# Altium integrated library Altera Cyclone.IntLib: 144 symbols (part 17 of 23)
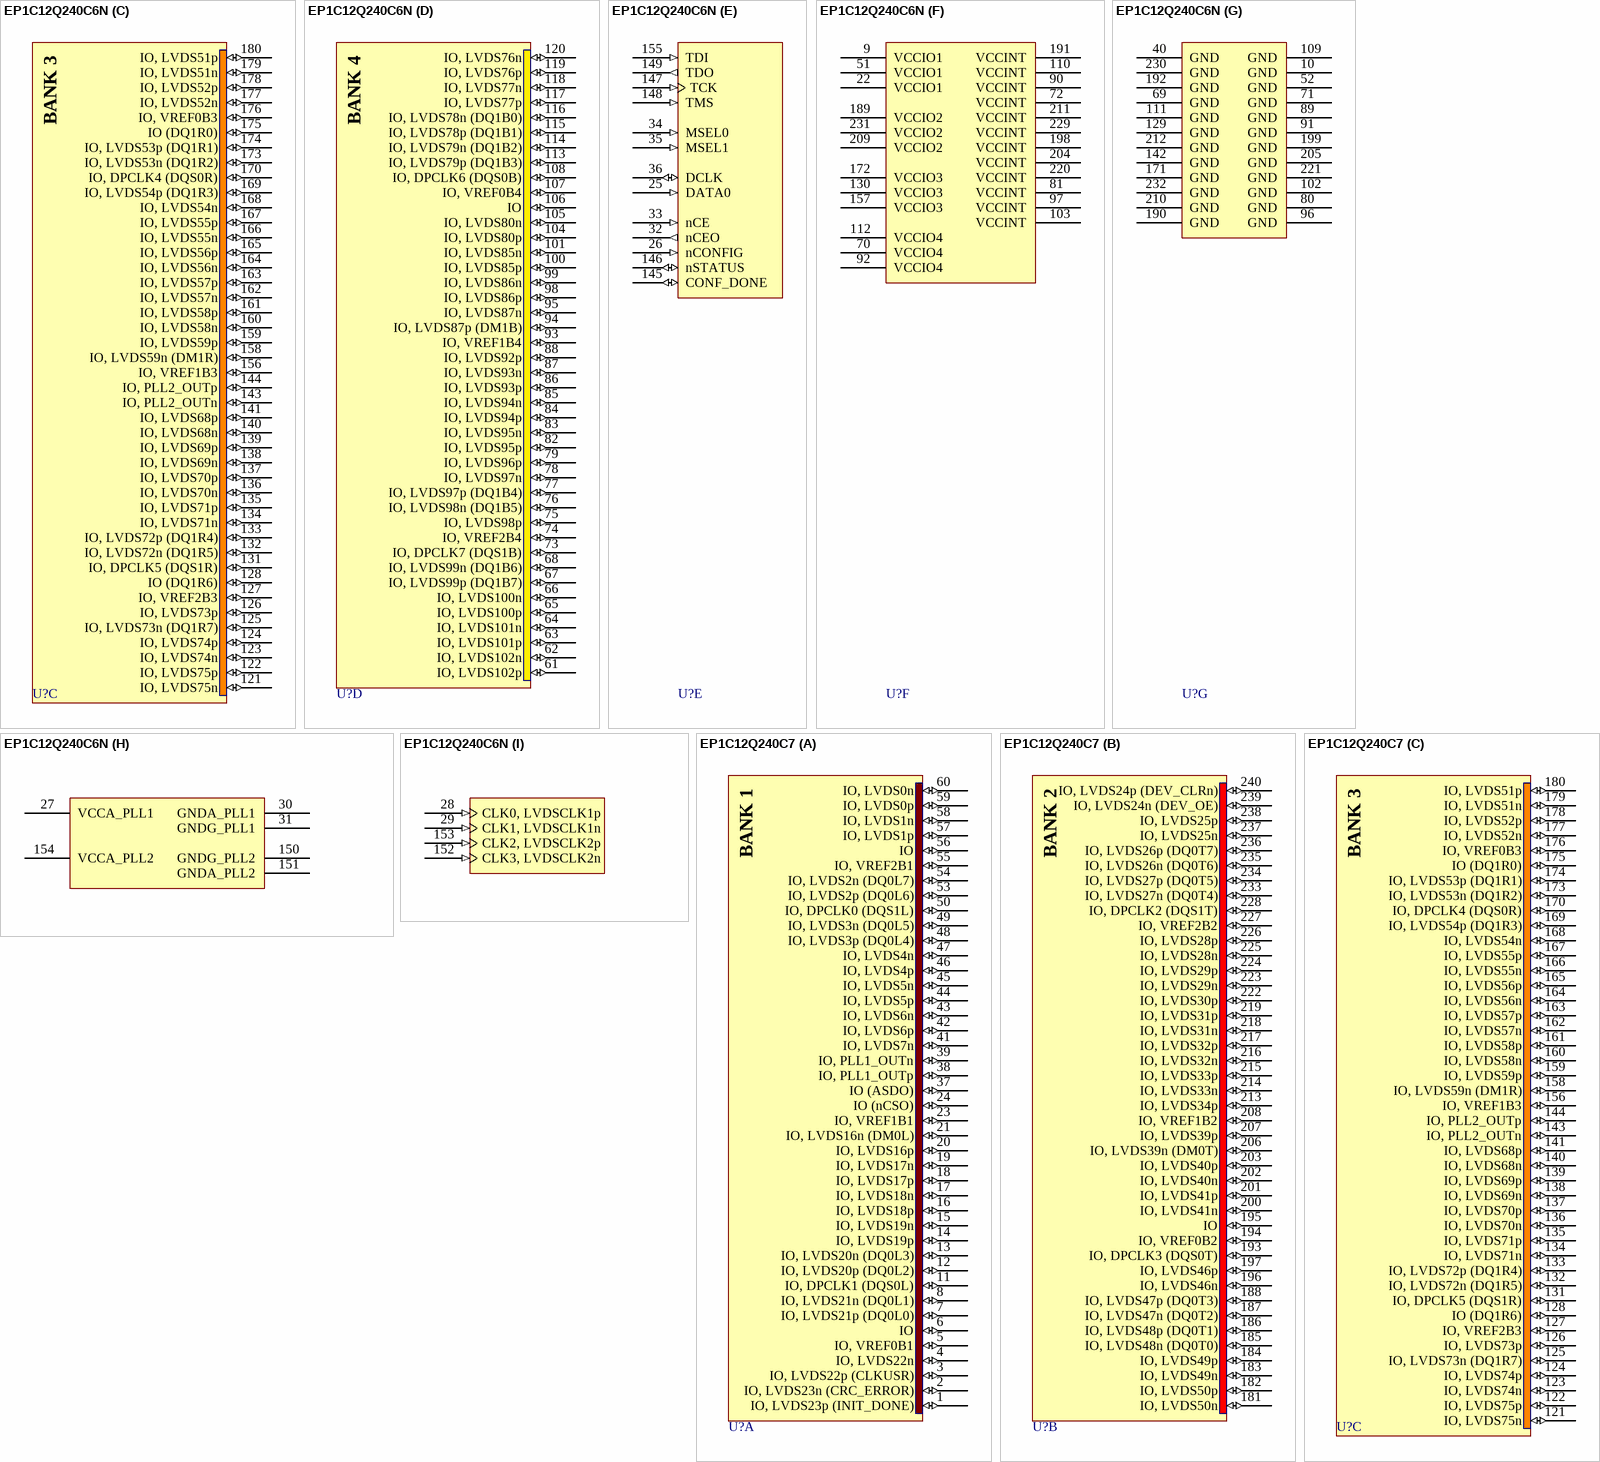
[diagram p169: symbols EP1C12Q240C6N to EP1C12Q240C7]

## EP1C12Q240C6N
designator U?
Cyclone Family, 1.5V FPGA, 173 I/O Pins, 2 x PLLs, Commercial Grade, Speed Grade 6, Pb-Free; Published: 4-Mar-2005; LatestRevisionDate: 13-Apr-2006; LatestRevisionNote: Pin 2 name fix, IPC-7351 Footprint Added.; DatasheetVersion: ver2.4, May-2008; PackageVersion: ver15.4, Dec-2008; PackageReference: PQFP240; Publisher: Altium Limited; PackageDescription: 240-Pin Plastic Quad Flat Pack (PQFP240) - Wire Bond; Supplier 1: Digi-Key; Supplier Part Number 1: 544-1793-ND; Code_JEDEC: MS-029-GA; ComponentLink1Description: Manufacturer Link; ComponentLink1URL: http://www.altera.com/products/devices/cyclone/cyc-index.jsp; ComponentLink2Description: Handbook; ComponentLink2URL: http://www.altera.com/literature/hb/cyc/cyc_c5v1.pdf; ComponentLink3Description: Packaging Specification; ComponentLink3URL: http://www.altera.com/literature/ds/dspkg.pdf
footprint PQFP240_N (Shrink QFP, 240-Leads, Body 32x32mm, Pitch 0.5mm, IPC Medium Density)
footprint PQFP240_L (Shrink QFP, 240-Leads, Body 32x32mm, Pitch 0.5mm, IPC High Density)
footprint PQFP240_M (Shrink QFP, 240-Leads, Body 32x32mm, Pitch 0.5mm, IPC Low Density)
3D model EP1C12-PQFP240 (240-Pin Plastic Quad Flat Pack (PQFP240) - Wire Bond)
signal-integrity model 1c (Cyclone)
part A pins: 1 IO, LVDS23p (INIT_DONE) (io), 2 IO, LVDS23n (CRC_ERROR) (io), 3 IO, LVDS22p (CLKUSR) (io), 4 IO, LVDS22n (io), 5 IO, VREF0B1 (io), 6 IO (io), 7 IO, LVDS21p (DQ0L0) (io), 8 IO, LVDS21n (DQ0L1) (io), 11 IO, DPCLK1 (DQS0L) (io), 12 IO, LVDS20p (DQ0L2) (io), 13 IO, LVDS20n (DQ0L3) (io), 14 IO, LVDS19p (io), 15 IO, LVDS19n (io), 16 IO, LVDS18p (io), 17 IO, LVDS18n (io), 18 IO, LVDS17p (io), 19 IO, LVDS17n (io), 20 IO, LVDS16p (io), 21 IO, LVDS16n (DM0L) (io), 23 IO, VREF1B1 (io), 24 IO (nCSO) (io), 37 IO (ASDO) (io), 38 IO, PLL1_OUTp (io), 39 IO, PLL1_OUTn (io), 41 IO, LVDS7n (io), 42 IO, LVDS6p (io), 43 IO, LVDS6n (io), 44 IO, LVDS5p (io), 45 IO, LVDS5n (io), 46 IO, LVDS4p (io), 47 IO, LVDS4n (io), 48 IO, LVDS3p (DQ0L4) (io), 49 IO, LVDS3n (DQ0L5) (io), 50 IO, DPCLK0 (DQS1L) (io), 53 IO, LVDS2p (DQ0L6) (io), 54 IO, LVDS2n (DQ0L7) (io), 55 IO, VREF2B1 (io), 56 IO (io), 57 IO, LVDS1p (io), 58 IO, LVDS1n (io), 59 IO, LVDS0p (io), 60 IO, LVDS0n (io)
part B pins: 181 IO, LVDS50n (io), 182 IO, LVDS50p (io), 183 IO, LVDS49n (io), 184 IO, LVDS49p (io), 185 IO, LVDS48n (DQ0T0) (io), 186 IO, LVDS48p (DQ0T1) (io), 187 IO, LVDS47n (DQ0T2) (io), 188 IO, LVDS47p (DQ0T3) (io), 193 IO, DPCLK3 (DQS0T) (io), 194 IO, VREF0B2 (io), 195 IO (io), 196 IO, LVDS46n (io), 197 IO, LVDS46p (io), 200 IO, LVDS41n (io), 201 IO, LVDS41p (io), 202 IO, LVDS40n (io), 203 IO, LVDS40p (io), 206 IO, LVDS39n (DM0T) (io), 207 IO, LVDS39p (io), 208 IO, VREF1B2 (io), 213 IO, LVDS34p (io), 214 IO, LVDS33n (io), 215 IO, LVDS33p (io), 216 IO, LVDS32n (io), 217 IO, LVDS32p (io), 218 IO, LVDS31n (io), 219 IO, LVDS31p (io), 222 IO, LVDS30p (io), 223 IO, LVDS29n (io), 224 IO, LVDS29p (io), 225 IO, LVDS28n (io), 226 IO, LVDS28p (io), 227 IO, VREF2B2 (io), 228 IO, DPCLK2 (DQS1T) (io), 233 IO, LVDS27n (DQ0T4) (io), 234 IO, LVDS27p (DQ0T5) (io), 235 IO, LVDS26n (DQ0T6) (io), 236 IO, LVDS26p (DQ0T7) (io), 237 IO, LVDS25n (io), 238 IO, LVDS25p (io), 239 IO, LVDS24n (DEV_OE) (io), 240 IO, LVDS24p (DEV_CLRn) (io)
part C pins: 121 IO, LVDS75n (io), 122 IO, LVDS75p (io), 123 IO, LVDS74n (io), 124 IO, LVDS74p (io), 125 IO, LVDS73n (DQ1R7) (io), 126 IO, LVDS73p (io), 127 IO, VREF2B3 (io), 128 IO (DQ1R6) (io), 131 IO, DPCLK5 (DQS1R) (io), 132 IO, LVDS72n (DQ1R5) (io), 133 IO, LVDS72p (DQ1R4) (io), 134 IO, LVDS71n (io), 135 IO, LVDS71p (io), 136 IO, LVDS70n (io), 137 IO, LVDS70p (io), 138 IO, LVDS69n (io), 139 IO, LVDS69p (io), 140 IO, LVDS68n (io), 141 IO, LVDS68p (io), 143 IO, PLL2_OUTn (io), 144 IO, PLL2_OUTp (io), 156 IO, VREF1B3 (io), 158 IO, LVDS59n (DM1R) (io), 159 IO, LVDS59p (io), 160 IO, LVDS58n (io), 161 IO, LVDS58p (io), 162 IO, LVDS57n (io), 163 IO, LVDS57p (io), 164 IO, LVDS56n (io), 165 IO, LVDS56p (io), 166 IO, LVDS55n (io), 167 IO, LVDS55p (io), 168 IO, LVDS54n (io), 169 IO, LVDS54p (DQ1R3) (io), 170 IO, DPCLK4 (DQS0R) (io), 173 IO, LVDS53n (DQ1R2) (io), 174 IO, LVDS53p (DQ1R1) (io), 175 IO (DQ1R0) (io), 176 IO, VREF0B3 (io), 177 IO, LVDS52n (io), 178 IO, LVDS52p (io), 179 IO, LVDS51n (io), 180 IO, LVDS51p (io)
part D pins: 61 IO, LVDS102p (io), 62 IO, LVDS102n (io), 63 IO, LVDS101p (io), 64 IO, LVDS101n (io), 65 IO, LVDS100p (io), 66 IO, LVDS100n (io), 67 IO, LVDS99p (DQ1B7) (io), 68 IO, LVDS99n (DQ1B6) (io), 73 IO, DPCLK7 (DQS1B) (io), 74 IO, VREF2B4 (io), 75 IO, LVDS98p (io), 76 IO, LVDS98n (DQ1B5) (io), 77 IO, LVDS97p (DQ1B4) (io), 78 IO, LVDS97n (io), 79 IO, LVDS96p (io), 82 IO, LVDS95p (io), 83 IO, LVDS95n (io), 84 IO, LVDS94p (io), 85 IO, LVDS94n (io), 86 IO, LVDS93p (io), 87 IO, LVDS93n (io), 88 IO, LVDS92p (io), 93 IO, VREF1B4 (io), 94 IO, LVDS87p (DM1B) (io), 95 IO, LVDS87n (io), 98 IO, LVDS86p (io), 99 IO, LVDS86n (io), 100 IO, LVDS85p (io), 101 IO, LVDS85n (io), 104 IO, LVDS80p (io), 105 IO, LVDS80n (io), 106 IO (io), 107 IO, VREF0B4 (io), 108 IO, DPCLK6 (DQS0B) (io), 113 IO, LVDS79p (DQ1B3) (io), 114 IO, LVDS79n (DQ1B2) (io), 115 IO, LVDS78p (DQ1B1) (io), 116 IO, LVDS78n (DQ1B0) (io), 117 IO, LVDS77p (io), 118 IO, LVDS77n (io), 119 IO, LVDS76p (io), 120 IO, LVDS76n (io)
part E pins: 25 DATA0 (in), 26 nCONFIG (in), 32 nCEO (out), 33 nCE (in), 34 MSEL0 (in), 35 MSEL1 (in), 36 DCLK (io), 145 CONF_DONE (io), 146 nSTATUS (io), 147 TCK (in), 148 TMS (in), 149 TDO (out), 155 TDI (in)
part F pins: 9 VCCIO1 (power), 22 VCCIO1 (power), 51 VCCIO1 (power), 70 VCCIO4 (power), 72 VCCINT (power), 81 VCCINT (power), 90 VCCINT (power), 92 VCCIO4 (power), 97 VCCINT (power), 103 VCCINT (power), 110 VCCINT (power), 112 VCCIO4 (power), 130 VCCIO3 (power), 157 VCCIO3 (power), 172 VCCIO3 (power), 189 VCCIO2 (power), 191 VCCINT (power), 198 VCCINT (power), 204 VCCINT (power), 209 VCCIO2 (power), 211 VCCINT (power), 220 VCCINT (power), 229 VCCINT (power), 231 VCCIO2 (power)
part G pins: 10 GND (power), 40 GND (power), 52 GND (power), 69 GND (power), 71 GND (power), 80 GND (power), 89 GND (power), 91 GND (power), 96 GND (power), 102 GND (power), 109 GND (power), 111 GND (power), 129 GND (power), 142 GND (power), 171 GND (power), 190 GND (power), 192 GND (power), 199 GND (power), 205 GND (power), 210 GND (power), 212 GND (power), 221 GND (power), 230 GND (power), 232 GND (power)
part H pins: 27 VCCA_PLL1 (power), 30 GNDA_PLL1 (power), 31 GNDG_PLL1 (power), 150 GNDG_PLL2 (power), 151 GNDA_PLL2 (power), 154 VCCA_PLL2 (power)
part I pins: 28 CLK0, LVDSCLK1p (in), 29 CLK1, LVDSCLK1n (in), 152 CLK3, LVDSCLK2n (in), 153 CLK2, LVDSCLK2p (in)
part A text: BANK 1
part B text: BANK 2
part C text: BANK 3
part D text: BANK 4

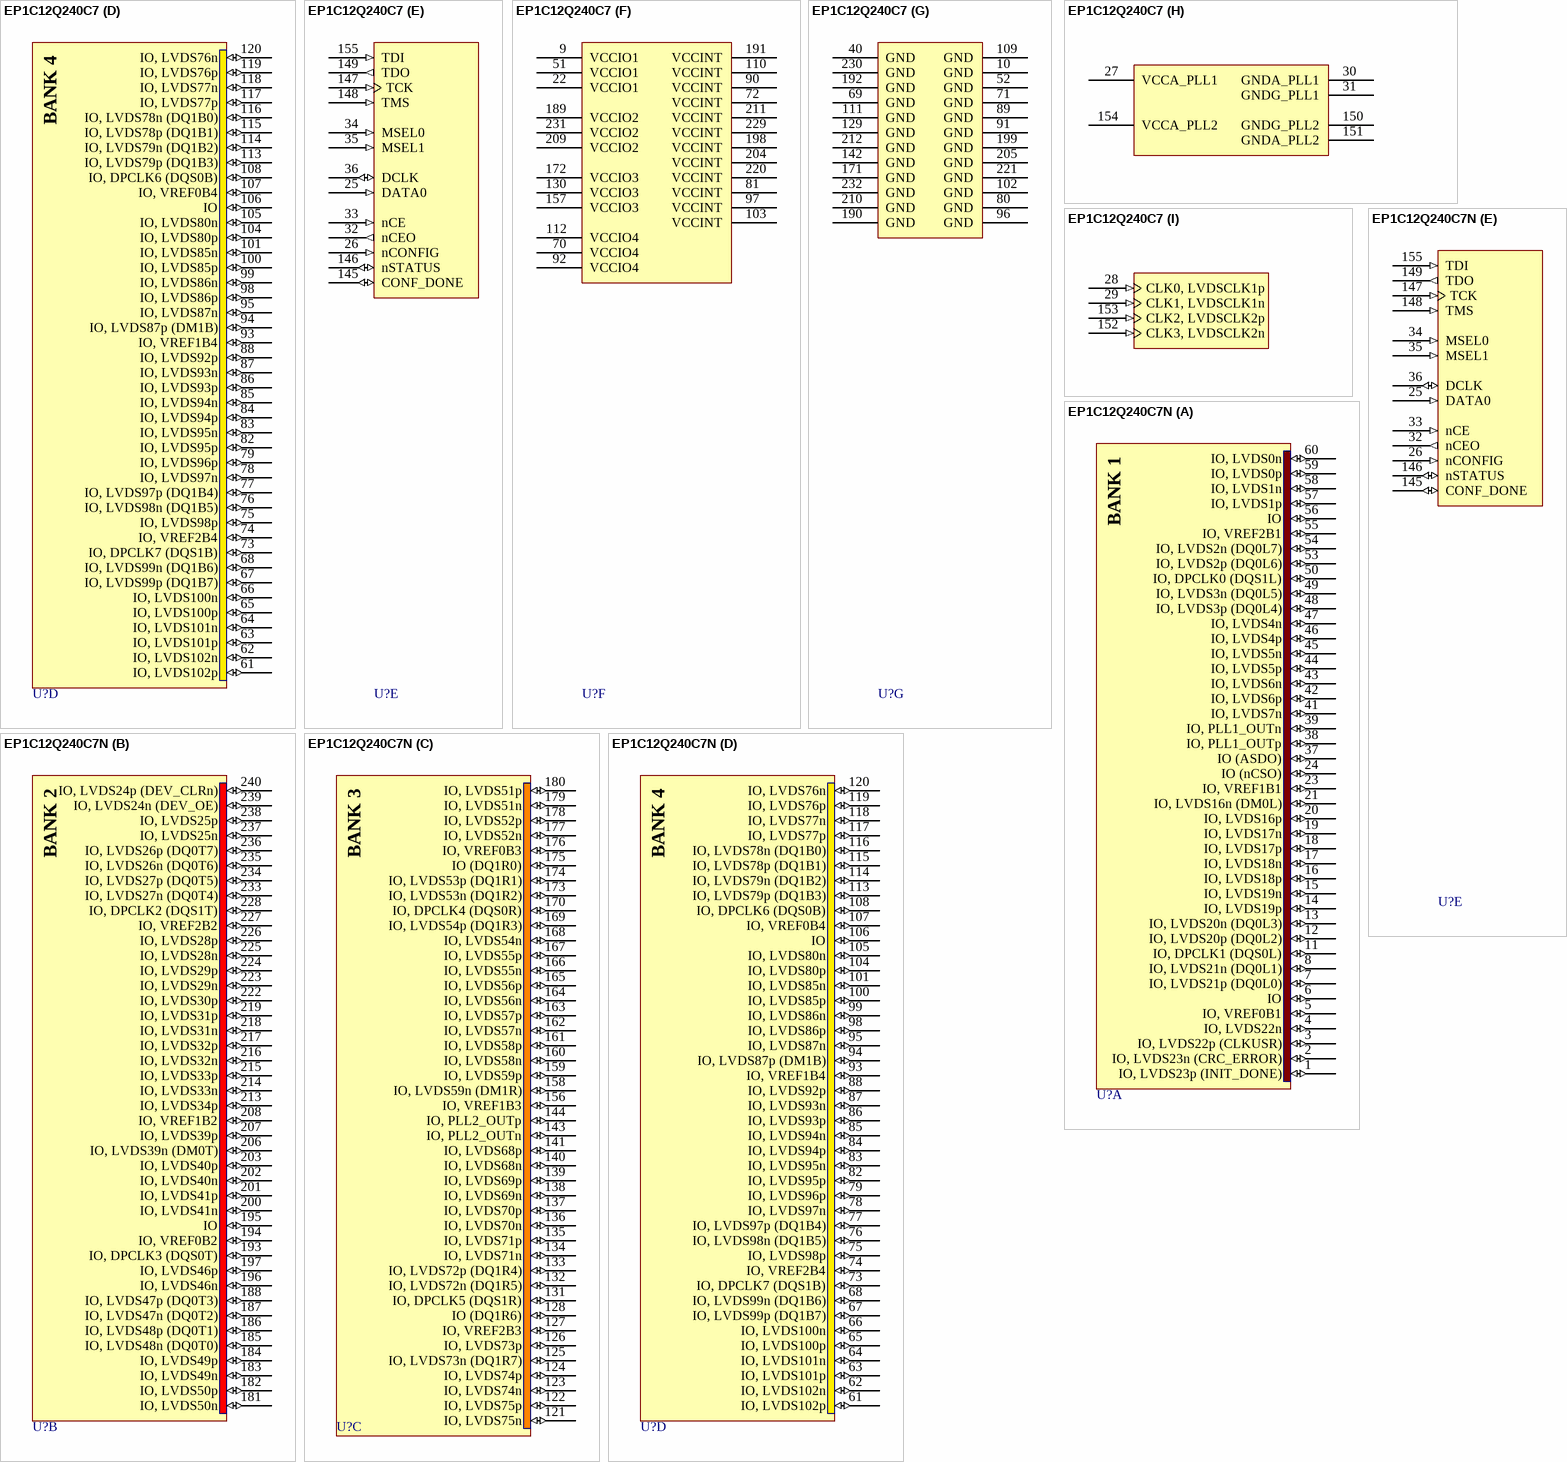
[diagram p111: symbols EP1C12Q240C7 to EP1C12Q240C7N]

## EP1C12Q240C7
designator U?
Cyclone Family, 1.5V FPGA, 173 I/O Pins, 2 x PLLs, Commercial Grade, Speed Grade 7; Published: 17-Sep-2003; LatestRevisionDate: 13-Apr-2006; LatestRevisionNote: Pin 2 name fix, IPC-7351 Footprint Added.; DatasheetVersion: ver2.4, May-2008; PackageVersion: ver15.4, Dec-2008; PackageReference: PQFP240; Publisher: Altium Limited; PackageDescription: 240-Pin Plastic Quad Flat Pack (PQFP240) - Wire Bond; Supplier 1: Digi-Key; Supplier Part Number 1: 544-1080-ND; Code_JEDEC: MS-029-GA; ComponentLink1Description: Manufacturer Link; ComponentLink1URL: http://www.altera.com/products/devices/cyclone/cyc-index.jsp; ComponentLink2Description: Handbook; ComponentLink2URL: http://www.altera.com/literature/hb/cyc/cyc_c5v1.pdf; ComponentLink3Description: Packaging Specification; ComponentLink3URL: http://www.altera.com/literature/ds/dspkg.pdf
footprint PQFP240_N (Shrink QFP, 240-Leads, Body 32x32mm, Pitch 0.5mm, IPC Medium Density)
footprint PQFP240_L (Shrink QFP, 240-Leads, Body 32x32mm, Pitch 0.5mm, IPC High Density)
footprint PQFP240_M (Shrink QFP, 240-Leads, Body 32x32mm, Pitch 0.5mm, IPC Low Density)
3D model EP1C12-PQFP240 (240-Pin Plastic Quad Flat Pack (PQFP240) - Wire Bond)
signal-integrity model 1c (Cyclone)
part A pins: 1 IO, LVDS23p (INIT_DONE) (io), 2 IO, LVDS23n (CRC_ERROR) (io), 3 IO, LVDS22p (CLKUSR) (io), 4 IO, LVDS22n (io), 5 IO, VREF0B1 (io), 6 IO (io), 7 IO, LVDS21p (DQ0L0) (io), 8 IO, LVDS21n (DQ0L1) (io), 11 IO, DPCLK1 (DQS0L) (io), 12 IO, LVDS20p (DQ0L2) (io), 13 IO, LVDS20n (DQ0L3) (io), 14 IO, LVDS19p (io), 15 IO, LVDS19n (io), 16 IO, LVDS18p (io), 17 IO, LVDS18n (io), 18 IO, LVDS17p (io), 19 IO, LVDS17n (io), 20 IO, LVDS16p (io), 21 IO, LVDS16n (DM0L) (io), 23 IO, VREF1B1 (io), 24 IO (nCSO) (io), 37 IO (ASDO) (io), 38 IO, PLL1_OUTp (io), 39 IO, PLL1_OUTn (io), 41 IO, LVDS7n (io), 42 IO, LVDS6p (io), 43 IO, LVDS6n (io), 44 IO, LVDS5p (io), 45 IO, LVDS5n (io), 46 IO, LVDS4p (io), 47 IO, LVDS4n (io), 48 IO, LVDS3p (DQ0L4) (io), 49 IO, LVDS3n (DQ0L5) (io), 50 IO, DPCLK0 (DQS1L) (io), 53 IO, LVDS2p (DQ0L6) (io), 54 IO, LVDS2n (DQ0L7) (io), 55 IO, VREF2B1 (io), 56 IO (io), 57 IO, LVDS1p (io), 58 IO, LVDS1n (io), 59 IO, LVDS0p (io), 60 IO, LVDS0n (io)
part B pins: 181 IO, LVDS50n (io), 182 IO, LVDS50p (io), 183 IO, LVDS49n (io), 184 IO, LVDS49p (io), 185 IO, LVDS48n (DQ0T0) (io), 186 IO, LVDS48p (DQ0T1) (io), 187 IO, LVDS47n (DQ0T2) (io), 188 IO, LVDS47p (DQ0T3) (io), 193 IO, DPCLK3 (DQS0T) (io), 194 IO, VREF0B2 (io), 195 IO (io), 196 IO, LVDS46n (io), 197 IO, LVDS46p (io), 200 IO, LVDS41n (io), 201 IO, LVDS41p (io), 202 IO, LVDS40n (io), 203 IO, LVDS40p (io), 206 IO, LVDS39n (DM0T) (io), 207 IO, LVDS39p (io), 208 IO, VREF1B2 (io), 213 IO, LVDS34p (io), 214 IO, LVDS33n (io), 215 IO, LVDS33p (io), 216 IO, LVDS32n (io), 217 IO, LVDS32p (io), 218 IO, LVDS31n (io), 219 IO, LVDS31p (io), 222 IO, LVDS30p (io), 223 IO, LVDS29n (io), 224 IO, LVDS29p (io), 225 IO, LVDS28n (io), 226 IO, LVDS28p (io), 227 IO, VREF2B2 (io), 228 IO, DPCLK2 (DQS1T) (io), 233 IO, LVDS27n (DQ0T4) (io), 234 IO, LVDS27p (DQ0T5) (io), 235 IO, LVDS26n (DQ0T6) (io), 236 IO, LVDS26p (DQ0T7) (io), 237 IO, LVDS25n (io), 238 IO, LVDS25p (io), 239 IO, LVDS24n (DEV_OE) (io), 240 IO, LVDS24p (DEV_CLRn) (io)
part C pins: 121 IO, LVDS75n (io), 122 IO, LVDS75p (io), 123 IO, LVDS74n (io), 124 IO, LVDS74p (io), 125 IO, LVDS73n (DQ1R7) (io), 126 IO, LVDS73p (io), 127 IO, VREF2B3 (io), 128 IO (DQ1R6) (io), 131 IO, DPCLK5 (DQS1R) (io), 132 IO, LVDS72n (DQ1R5) (io), 133 IO, LVDS72p (DQ1R4) (io), 134 IO, LVDS71n (io), 135 IO, LVDS71p (io), 136 IO, LVDS70n (io), 137 IO, LVDS70p (io), 138 IO, LVDS69n (io), 139 IO, LVDS69p (io), 140 IO, LVDS68n (io), 141 IO, LVDS68p (io), 143 IO, PLL2_OUTn (io), 144 IO, PLL2_OUTp (io), 156 IO, VREF1B3 (io), 158 IO, LVDS59n (DM1R) (io), 159 IO, LVDS59p (io), 160 IO, LVDS58n (io), 161 IO, LVDS58p (io), 162 IO, LVDS57n (io), 163 IO, LVDS57p (io), 164 IO, LVDS56n (io), 165 IO, LVDS56p (io), 166 IO, LVDS55n (io), 167 IO, LVDS55p (io), 168 IO, LVDS54n (io), 169 IO, LVDS54p (DQ1R3) (io), 170 IO, DPCLK4 (DQS0R) (io), 173 IO, LVDS53n (DQ1R2) (io), 174 IO, LVDS53p (DQ1R1) (io), 175 IO (DQ1R0) (io), 176 IO, VREF0B3 (io), 177 IO, LVDS52n (io), 178 IO, LVDS52p (io), 179 IO, LVDS51n (io), 180 IO, LVDS51p (io)
part D pins: 61 IO, LVDS102p (io), 62 IO, LVDS102n (io), 63 IO, LVDS101p (io), 64 IO, LVDS101n (io), 65 IO, LVDS100p (io), 66 IO, LVDS100n (io), 67 IO, LVDS99p (DQ1B7) (io), 68 IO, LVDS99n (DQ1B6) (io), 73 IO, DPCLK7 (DQS1B) (io), 74 IO, VREF2B4 (io), 75 IO, LVDS98p (io), 76 IO, LVDS98n (DQ1B5) (io), 77 IO, LVDS97p (DQ1B4) (io), 78 IO, LVDS97n (io), 79 IO, LVDS96p (io), 82 IO, LVDS95p (io), 83 IO, LVDS95n (io), 84 IO, LVDS94p (io), 85 IO, LVDS94n (io), 86 IO, LVDS93p (io), 87 IO, LVDS93n (io), 88 IO, LVDS92p (io), 93 IO, VREF1B4 (io), 94 IO, LVDS87p (DM1B) (io), 95 IO, LVDS87n (io), 98 IO, LVDS86p (io), 99 IO, LVDS86n (io), 100 IO, LVDS85p (io), 101 IO, LVDS85n (io), 104 IO, LVDS80p (io), 105 IO, LVDS80n (io), 106 IO (io), 107 IO, VREF0B4 (io), 108 IO, DPCLK6 (DQS0B) (io), 113 IO, LVDS79p (DQ1B3) (io), 114 IO, LVDS79n (DQ1B2) (io), 115 IO, LVDS78p (DQ1B1) (io), 116 IO, LVDS78n (DQ1B0) (io), 117 IO, LVDS77p (io), 118 IO, LVDS77n (io), 119 IO, LVDS76p (io), 120 IO, LVDS76n (io)
part E pins: 25 DATA0 (in), 26 nCONFIG (in), 32 nCEO (out), 33 nCE (in), 34 MSEL0 (in), 35 MSEL1 (in), 36 DCLK (io), 145 CONF_DONE (io), 146 nSTATUS (io), 147 TCK (in), 148 TMS (in), 149 TDO (out), 155 TDI (in)
part F pins: 9 VCCIO1 (power), 22 VCCIO1 (power), 51 VCCIO1 (power), 70 VCCIO4 (power), 72 VCCINT (power), 81 VCCINT (power), 90 VCCINT (power), 92 VCCIO4 (power), 97 VCCINT (power), 103 VCCINT (power), 110 VCCINT (power), 112 VCCIO4 (power), 130 VCCIO3 (power), 157 VCCIO3 (power), 172 VCCIO3 (power), 189 VCCIO2 (power), 191 VCCINT (power), 198 VCCINT (power), 204 VCCINT (power), 209 VCCIO2 (power), 211 VCCINT (power), 220 VCCINT (power), 229 VCCINT (power), 231 VCCIO2 (power)
part G pins: 10 GND (power), 40 GND (power), 52 GND (power), 69 GND (power), 71 GND (power), 80 GND (power), 89 GND (power), 91 GND (power), 96 GND (power), 102 GND (power), 109 GND (power), 111 GND (power), 129 GND (power), 142 GND (power), 171 GND (power), 190 GND (power), 192 GND (power), 199 GND (power), 205 GND (power), 210 GND (power), 212 GND (power), 221 GND (power), 230 GND (power), 232 GND (power)
part H pins: 27 VCCA_PLL1 (power), 30 GNDA_PLL1 (power), 31 GNDG_PLL1 (power), 150 GNDG_PLL2 (power), 151 GNDA_PLL2 (power), 154 VCCA_PLL2 (power)
part I pins: 28 CLK0, LVDSCLK1p (in), 29 CLK1, LVDSCLK1n (in), 152 CLK3, LVDSCLK2n (in), 153 CLK2, LVDSCLK2p (in)
part A text: BANK 1
part B text: BANK 2
part C text: BANK 3
part D text: BANK 4

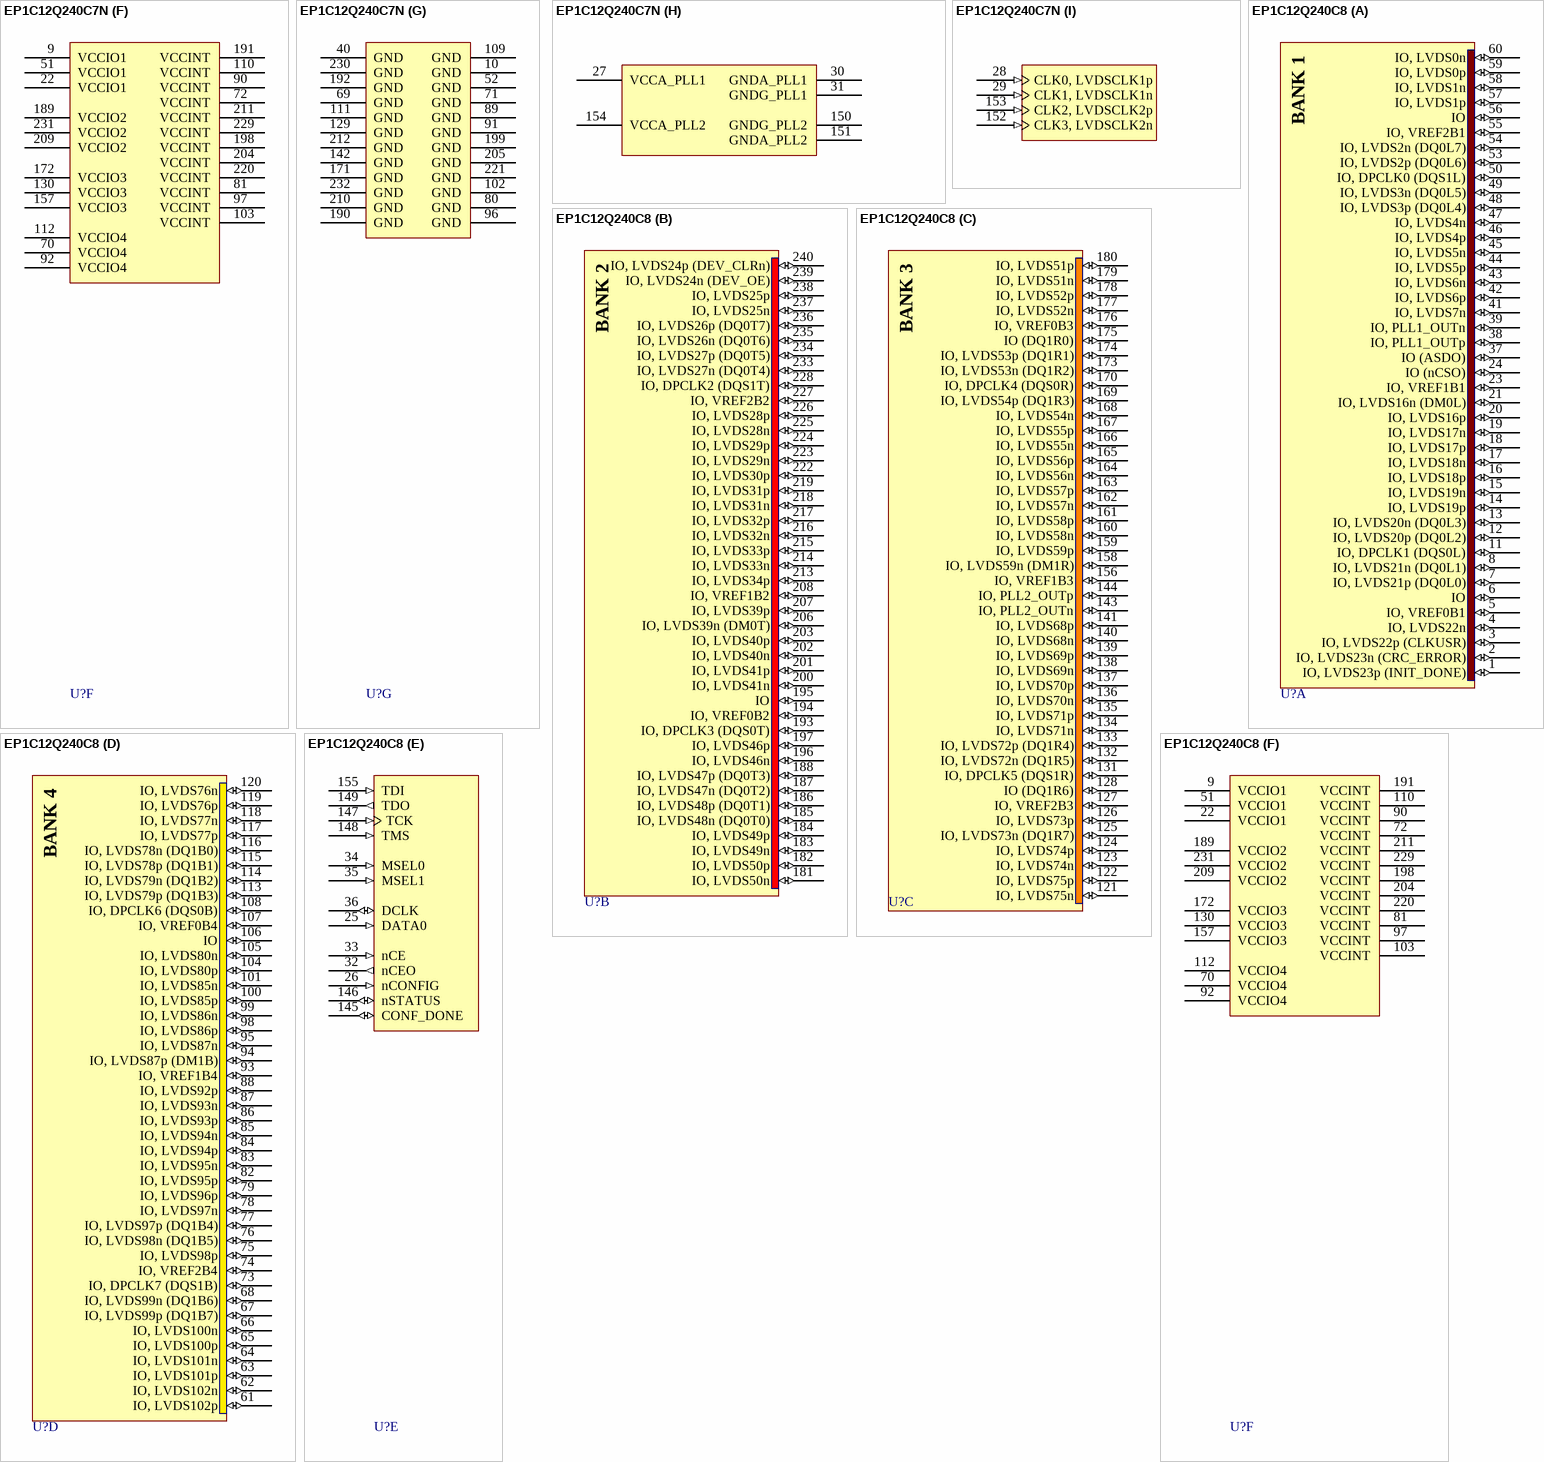
[diagram p112: symbols EP1C12Q240C7N to EP1C12Q240C8]

## EP1C12Q240C7N
designator U?
Cyclone Family, 1.5V FPGA, 173 I/O Pins, 2 x PLLs, Commercial Grade, Speed Grade 7, Pb-Free; Published: 4-Mar-2005; LatestRevisionDate: 13-Apr-2006; LatestRevisionNote: Pin 2 name fix, IPC-7351 Footprint Added.; DatasheetVersion: ver2.4, May-2008; PackageVersion: ver15.4, Dec-2008; PackageReference: PQFP240; Publisher: Altium Limited; PackageDescription: 240-Pin Plastic Quad Flat Pack (PQFP240) - Wire Bond; Supplier 1: Digi-Key; Supplier Part Number 1: 544-1794-ND; Code_JEDEC: MS-029-GA; ComponentLink1Description: Manufacturer Link; ComponentLink1URL: http://www.altera.com/products/devices/cyclone/cyc-index.jsp; ComponentLink2Description: Handbook; ComponentLink2URL: http://www.altera.com/literature/hb/cyc/cyc_c5v1.pdf; ComponentLink3Description: Packaging Specification; ComponentLink3URL: http://www.altera.com/literature/ds/dspkg.pdf
footprint PQFP240_N (Shrink QFP, 240-Leads, Body 32x32mm, Pitch 0.5mm, IPC Medium Density)
footprint PQFP240_L (Shrink QFP, 240-Leads, Body 32x32mm, Pitch 0.5mm, IPC High Density)
footprint PQFP240_M (Shrink QFP, 240-Leads, Body 32x32mm, Pitch 0.5mm, IPC Low Density)
3D model EP1C12-PQFP240 (240-Pin Plastic Quad Flat Pack (PQFP240) - Wire Bond)
signal-integrity model 1c (Cyclone)
part A pins: 1 IO, LVDS23p (INIT_DONE) (io), 2 IO, LVDS23n (CRC_ERROR) (io), 3 IO, LVDS22p (CLKUSR) (io), 4 IO, LVDS22n (io), 5 IO, VREF0B1 (io), 6 IO (io), 7 IO, LVDS21p (DQ0L0) (io), 8 IO, LVDS21n (DQ0L1) (io), 11 IO, DPCLK1 (DQS0L) (io), 12 IO, LVDS20p (DQ0L2) (io), 13 IO, LVDS20n (DQ0L3) (io), 14 IO, LVDS19p (io), 15 IO, LVDS19n (io), 16 IO, LVDS18p (io), 17 IO, LVDS18n (io), 18 IO, LVDS17p (io), 19 IO, LVDS17n (io), 20 IO, LVDS16p (io), 21 IO, LVDS16n (DM0L) (io), 23 IO, VREF1B1 (io), 24 IO (nCSO) (io), 37 IO (ASDO) (io), 38 IO, PLL1_OUTp (io), 39 IO, PLL1_OUTn (io), 41 IO, LVDS7n (io), 42 IO, LVDS6p (io), 43 IO, LVDS6n (io), 44 IO, LVDS5p (io), 45 IO, LVDS5n (io), 46 IO, LVDS4p (io), 47 IO, LVDS4n (io), 48 IO, LVDS3p (DQ0L4) (io), 49 IO, LVDS3n (DQ0L5) (io), 50 IO, DPCLK0 (DQS1L) (io), 53 IO, LVDS2p (DQ0L6) (io), 54 IO, LVDS2n (DQ0L7) (io), 55 IO, VREF2B1 (io), 56 IO (io), 57 IO, LVDS1p (io), 58 IO, LVDS1n (io), 59 IO, LVDS0p (io), 60 IO, LVDS0n (io)
part B pins: 181 IO, LVDS50n (io), 182 IO, LVDS50p (io), 183 IO, LVDS49n (io), 184 IO, LVDS49p (io), 185 IO, LVDS48n (DQ0T0) (io), 186 IO, LVDS48p (DQ0T1) (io), 187 IO, LVDS47n (DQ0T2) (io), 188 IO, LVDS47p (DQ0T3) (io), 193 IO, DPCLK3 (DQS0T) (io), 194 IO, VREF0B2 (io), 195 IO (io), 196 IO, LVDS46n (io), 197 IO, LVDS46p (io), 200 IO, LVDS41n (io), 201 IO, LVDS41p (io), 202 IO, LVDS40n (io), 203 IO, LVDS40p (io), 206 IO, LVDS39n (DM0T) (io), 207 IO, LVDS39p (io), 208 IO, VREF1B2 (io), 213 IO, LVDS34p (io), 214 IO, LVDS33n (io), 215 IO, LVDS33p (io), 216 IO, LVDS32n (io), 217 IO, LVDS32p (io), 218 IO, LVDS31n (io), 219 IO, LVDS31p (io), 222 IO, LVDS30p (io), 223 IO, LVDS29n (io), 224 IO, LVDS29p (io), 225 IO, LVDS28n (io), 226 IO, LVDS28p (io), 227 IO, VREF2B2 (io), 228 IO, DPCLK2 (DQS1T) (io), 233 IO, LVDS27n (DQ0T4) (io), 234 IO, LVDS27p (DQ0T5) (io), 235 IO, LVDS26n (DQ0T6) (io), 236 IO, LVDS26p (DQ0T7) (io), 237 IO, LVDS25n (io), 238 IO, LVDS25p (io), 239 IO, LVDS24n (DEV_OE) (io), 240 IO, LVDS24p (DEV_CLRn) (io)
part C pins: 121 IO, LVDS75n (io), 122 IO, LVDS75p (io), 123 IO, LVDS74n (io), 124 IO, LVDS74p (io), 125 IO, LVDS73n (DQ1R7) (io), 126 IO, LVDS73p (io), 127 IO, VREF2B3 (io), 128 IO (DQ1R6) (io), 131 IO, DPCLK5 (DQS1R) (io), 132 IO, LVDS72n (DQ1R5) (io), 133 IO, LVDS72p (DQ1R4) (io), 134 IO, LVDS71n (io), 135 IO, LVDS71p (io), 136 IO, LVDS70n (io), 137 IO, LVDS70p (io), 138 IO, LVDS69n (io), 139 IO, LVDS69p (io), 140 IO, LVDS68n (io), 141 IO, LVDS68p (io), 143 IO, PLL2_OUTn (io), 144 IO, PLL2_OUTp (io), 156 IO, VREF1B3 (io), 158 IO, LVDS59n (DM1R) (io), 159 IO, LVDS59p (io), 160 IO, LVDS58n (io), 161 IO, LVDS58p (io), 162 IO, LVDS57n (io), 163 IO, LVDS57p (io), 164 IO, LVDS56n (io), 165 IO, LVDS56p (io), 166 IO, LVDS55n (io), 167 IO, LVDS55p (io), 168 IO, LVDS54n (io), 169 IO, LVDS54p (DQ1R3) (io), 170 IO, DPCLK4 (DQS0R) (io), 173 IO, LVDS53n (DQ1R2) (io), 174 IO, LVDS53p (DQ1R1) (io), 175 IO (DQ1R0) (io), 176 IO, VREF0B3 (io), 177 IO, LVDS52n (io), 178 IO, LVDS52p (io), 179 IO, LVDS51n (io), 180 IO, LVDS51p (io)
part D pins: 61 IO, LVDS102p (io), 62 IO, LVDS102n (io), 63 IO, LVDS101p (io), 64 IO, LVDS101n (io), 65 IO, LVDS100p (io), 66 IO, LVDS100n (io), 67 IO, LVDS99p (DQ1B7) (io), 68 IO, LVDS99n (DQ1B6) (io), 73 IO, DPCLK7 (DQS1B) (io), 74 IO, VREF2B4 (io), 75 IO, LVDS98p (io), 76 IO, LVDS98n (DQ1B5) (io), 77 IO, LVDS97p (DQ1B4) (io), 78 IO, LVDS97n (io), 79 IO, LVDS96p (io), 82 IO, LVDS95p (io), 83 IO, LVDS95n (io), 84 IO, LVDS94p (io), 85 IO, LVDS94n (io), 86 IO, LVDS93p (io), 87 IO, LVDS93n (io), 88 IO, LVDS92p (io), 93 IO, VREF1B4 (io), 94 IO, LVDS87p (DM1B) (io), 95 IO, LVDS87n (io), 98 IO, LVDS86p (io), 99 IO, LVDS86n (io), 100 IO, LVDS85p (io), 101 IO, LVDS85n (io), 104 IO, LVDS80p (io), 105 IO, LVDS80n (io), 106 IO (io), 107 IO, VREF0B4 (io), 108 IO, DPCLK6 (DQS0B) (io), 113 IO, LVDS79p (DQ1B3) (io), 114 IO, LVDS79n (DQ1B2) (io), 115 IO, LVDS78p (DQ1B1) (io), 116 IO, LVDS78n (DQ1B0) (io), 117 IO, LVDS77p (io), 118 IO, LVDS77n (io), 119 IO, LVDS76p (io), 120 IO, LVDS76n (io)
part E pins: 25 DATA0 (in), 26 nCONFIG (in), 32 nCEO (out), 33 nCE (in), 34 MSEL0 (in), 35 MSEL1 (in), 36 DCLK (io), 145 CONF_DONE (io), 146 nSTATUS (io), 147 TCK (in), 148 TMS (in), 149 TDO (out), 155 TDI (in)
part F pins: 9 VCCIO1 (power), 22 VCCIO1 (power), 51 VCCIO1 (power), 70 VCCIO4 (power), 72 VCCINT (power), 81 VCCINT (power), 90 VCCINT (power), 92 VCCIO4 (power), 97 VCCINT (power), 103 VCCINT (power), 110 VCCINT (power), 112 VCCIO4 (power), 130 VCCIO3 (power), 157 VCCIO3 (power), 172 VCCIO3 (power), 189 VCCIO2 (power), 191 VCCINT (power), 198 VCCINT (power), 204 VCCINT (power), 209 VCCIO2 (power), 211 VCCINT (power), 220 VCCINT (power), 229 VCCINT (power), 231 VCCIO2 (power)
part G pins: 10 GND (power), 40 GND (power), 52 GND (power), 69 GND (power), 71 GND (power), 80 GND (power), 89 GND (power), 91 GND (power), 96 GND (power), 102 GND (power), 109 GND (power), 111 GND (power), 129 GND (power), 142 GND (power), 171 GND (power), 190 GND (power), 192 GND (power), 199 GND (power), 205 GND (power), 210 GND (power), 212 GND (power), 221 GND (power), 230 GND (power), 232 GND (power)
part H pins: 27 VCCA_PLL1 (power), 30 GNDA_PLL1 (power), 31 GNDG_PLL1 (power), 150 GNDG_PLL2 (power), 151 GNDA_PLL2 (power), 154 VCCA_PLL2 (power)
part I pins: 28 CLK0, LVDSCLK1p (in), 29 CLK1, LVDSCLK1n (in), 152 CLK3, LVDSCLK2n (in), 153 CLK2, LVDSCLK2p (in)
part A text: BANK 1
part B text: BANK 2
part C text: BANK 3
part D text: BANK 4

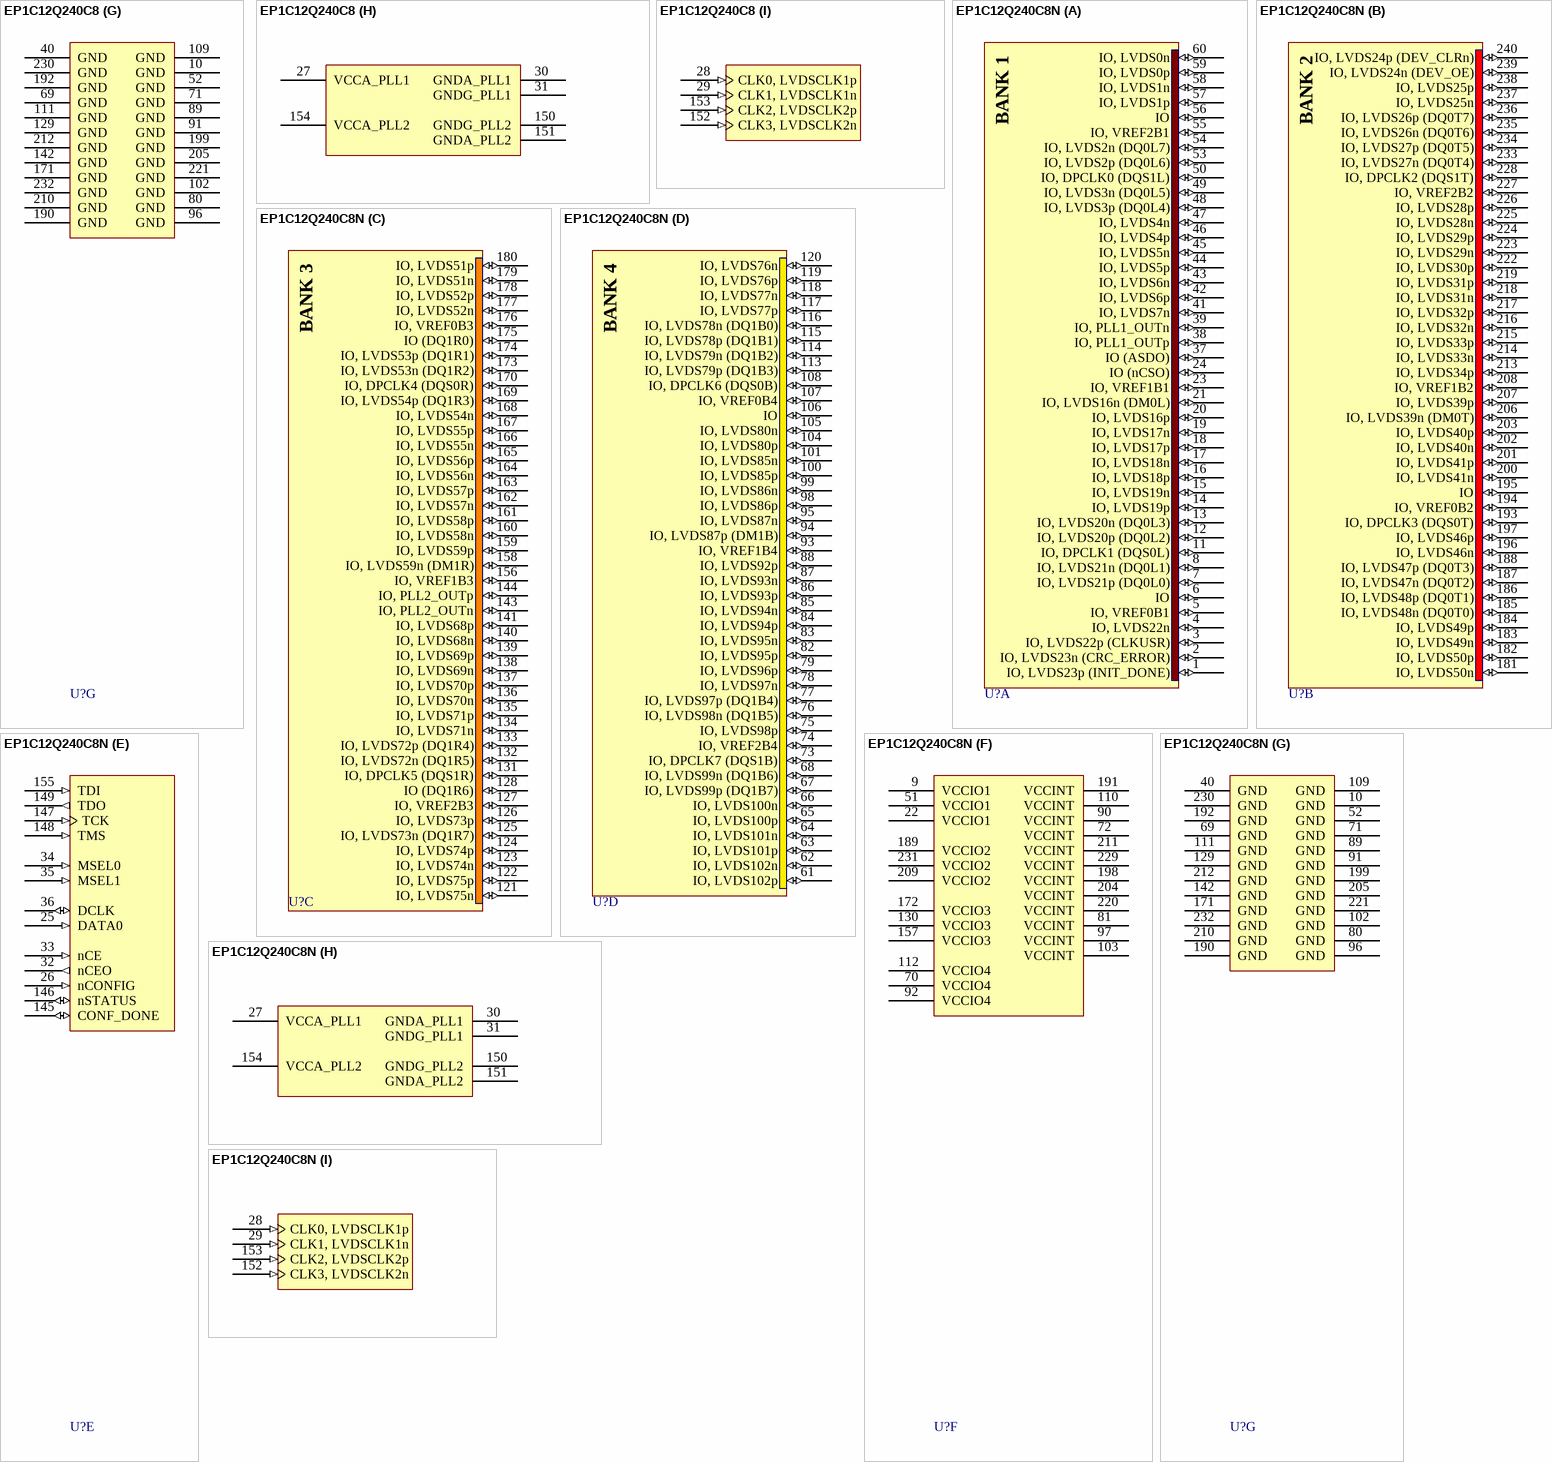
[diagram p113: symbols EP1C12Q240C8 to EP1C12Q240C8N]

## EP1C12Q240C8
designator U?
Cyclone Family, 1.5V FPGA, 173 I/O Pins, 2 x PLLs, Commercial Grade, Speed Grade 8; Published: 17-Sep-2003; LatestRevisionDate: 13-Apr-2006; LatestRevisionNote: Pin 2 name fix, IPC-7351 Footprint Added.; DatasheetVersion: ver2.4, May-2008; PackageVersion: ver15.4, Dec-2008; PackageReference: PQFP240; Publisher: Altium Limited; PackageDescription: 240-Pin Plastic Quad Flat Pack (PQFP240) - Wire Bond; Supplier 1: Digi-Key; Supplier Part Number 1: 544-1081-ND; Code_JEDEC: MS-029-GA; ComponentLink1Description: Manufacturer Link; ComponentLink1URL: http://www.altera.com/products/devices/cyclone/cyc-index.jsp; ComponentLink2Description: Handbook; ComponentLink2URL: http://www.altera.com/literature/hb/cyc/cyc_c5v1.pdf; ComponentLink3Description: Packaging Specification; ComponentLink3URL: http://www.altera.com/literature/ds/dspkg.pdf
footprint PQFP240_N (Shrink QFP, 240-Leads, Body 32x32mm, Pitch 0.5mm, IPC Medium Density)
footprint PQFP240_L (Shrink QFP, 240-Leads, Body 32x32mm, Pitch 0.5mm, IPC High Density)
footprint PQFP240_M (Shrink QFP, 240-Leads, Body 32x32mm, Pitch 0.5mm, IPC Low Density)
3D model EP1C12-PQFP240 (240-Pin Plastic Quad Flat Pack (PQFP240) - Wire Bond)
signal-integrity model 1c (Cyclone)
part A pins: 1 IO, LVDS23p (INIT_DONE) (io), 2 IO, LVDS23n (CRC_ERROR) (io), 3 IO, LVDS22p (CLKUSR) (io), 4 IO, LVDS22n (io), 5 IO, VREF0B1 (io), 6 IO (io), 7 IO, LVDS21p (DQ0L0) (io), 8 IO, LVDS21n (DQ0L1) (io), 11 IO, DPCLK1 (DQS0L) (io), 12 IO, LVDS20p (DQ0L2) (io), 13 IO, LVDS20n (DQ0L3) (io), 14 IO, LVDS19p (io), 15 IO, LVDS19n (io), 16 IO, LVDS18p (io), 17 IO, LVDS18n (io), 18 IO, LVDS17p (io), 19 IO, LVDS17n (io), 20 IO, LVDS16p (io), 21 IO, LVDS16n (DM0L) (io), 23 IO, VREF1B1 (io), 24 IO (nCSO) (io), 37 IO (ASDO) (io), 38 IO, PLL1_OUTp (io), 39 IO, PLL1_OUTn (io), 41 IO, LVDS7n (io), 42 IO, LVDS6p (io), 43 IO, LVDS6n (io), 44 IO, LVDS5p (io), 45 IO, LVDS5n (io), 46 IO, LVDS4p (io), 47 IO, LVDS4n (io), 48 IO, LVDS3p (DQ0L4) (io), 49 IO, LVDS3n (DQ0L5) (io), 50 IO, DPCLK0 (DQS1L) (io), 53 IO, LVDS2p (DQ0L6) (io), 54 IO, LVDS2n (DQ0L7) (io), 55 IO, VREF2B1 (io), 56 IO (io), 57 IO, LVDS1p (io), 58 IO, LVDS1n (io), 59 IO, LVDS0p (io), 60 IO, LVDS0n (io)
part B pins: 181 IO, LVDS50n (io), 182 IO, LVDS50p (io), 183 IO, LVDS49n (io), 184 IO, LVDS49p (io), 185 IO, LVDS48n (DQ0T0) (io), 186 IO, LVDS48p (DQ0T1) (io), 187 IO, LVDS47n (DQ0T2) (io), 188 IO, LVDS47p (DQ0T3) (io), 193 IO, DPCLK3 (DQS0T) (io), 194 IO, VREF0B2 (io), 195 IO (io), 196 IO, LVDS46n (io), 197 IO, LVDS46p (io), 200 IO, LVDS41n (io), 201 IO, LVDS41p (io), 202 IO, LVDS40n (io), 203 IO, LVDS40p (io), 206 IO, LVDS39n (DM0T) (io), 207 IO, LVDS39p (io), 208 IO, VREF1B2 (io), 213 IO, LVDS34p (io), 214 IO, LVDS33n (io), 215 IO, LVDS33p (io), 216 IO, LVDS32n (io), 217 IO, LVDS32p (io), 218 IO, LVDS31n (io), 219 IO, LVDS31p (io), 222 IO, LVDS30p (io), 223 IO, LVDS29n (io), 224 IO, LVDS29p (io), 225 IO, LVDS28n (io), 226 IO, LVDS28p (io), 227 IO, VREF2B2 (io), 228 IO, DPCLK2 (DQS1T) (io), 233 IO, LVDS27n (DQ0T4) (io), 234 IO, LVDS27p (DQ0T5) (io), 235 IO, LVDS26n (DQ0T6) (io), 236 IO, LVDS26p (DQ0T7) (io), 237 IO, LVDS25n (io), 238 IO, LVDS25p (io), 239 IO, LVDS24n (DEV_OE) (io), 240 IO, LVDS24p (DEV_CLRn) (io)
part C pins: 121 IO, LVDS75n (io), 122 IO, LVDS75p (io), 123 IO, LVDS74n (io), 124 IO, LVDS74p (io), 125 IO, LVDS73n (DQ1R7) (io), 126 IO, LVDS73p (io), 127 IO, VREF2B3 (io), 128 IO (DQ1R6) (io), 131 IO, DPCLK5 (DQS1R) (io), 132 IO, LVDS72n (DQ1R5) (io), 133 IO, LVDS72p (DQ1R4) (io), 134 IO, LVDS71n (io), 135 IO, LVDS71p (io), 136 IO, LVDS70n (io), 137 IO, LVDS70p (io), 138 IO, LVDS69n (io), 139 IO, LVDS69p (io), 140 IO, LVDS68n (io), 141 IO, LVDS68p (io), 143 IO, PLL2_OUTn (io), 144 IO, PLL2_OUTp (io), 156 IO, VREF1B3 (io), 158 IO, LVDS59n (DM1R) (io), 159 IO, LVDS59p (io), 160 IO, LVDS58n (io), 161 IO, LVDS58p (io), 162 IO, LVDS57n (io), 163 IO, LVDS57p (io), 164 IO, LVDS56n (io), 165 IO, LVDS56p (io), 166 IO, LVDS55n (io), 167 IO, LVDS55p (io), 168 IO, LVDS54n (io), 169 IO, LVDS54p (DQ1R3) (io), 170 IO, DPCLK4 (DQS0R) (io), 173 IO, LVDS53n (DQ1R2) (io), 174 IO, LVDS53p (DQ1R1) (io), 175 IO (DQ1R0) (io), 176 IO, VREF0B3 (io), 177 IO, LVDS52n (io), 178 IO, LVDS52p (io), 179 IO, LVDS51n (io), 180 IO, LVDS51p (io)
part D pins: 61 IO, LVDS102p (io), 62 IO, LVDS102n (io), 63 IO, LVDS101p (io), 64 IO, LVDS101n (io), 65 IO, LVDS100p (io), 66 IO, LVDS100n (io), 67 IO, LVDS99p (DQ1B7) (io), 68 IO, LVDS99n (DQ1B6) (io), 73 IO, DPCLK7 (DQS1B) (io), 74 IO, VREF2B4 (io), 75 IO, LVDS98p (io), 76 IO, LVDS98n (DQ1B5) (io), 77 IO, LVDS97p (DQ1B4) (io), 78 IO, LVDS97n (io), 79 IO, LVDS96p (io), 82 IO, LVDS95p (io), 83 IO, LVDS95n (io), 84 IO, LVDS94p (io), 85 IO, LVDS94n (io), 86 IO, LVDS93p (io), 87 IO, LVDS93n (io), 88 IO, LVDS92p (io), 93 IO, VREF1B4 (io), 94 IO, LVDS87p (DM1B) (io), 95 IO, LVDS87n (io), 98 IO, LVDS86p (io), 99 IO, LVDS86n (io), 100 IO, LVDS85p (io), 101 IO, LVDS85n (io), 104 IO, LVDS80p (io), 105 IO, LVDS80n (io), 106 IO (io), 107 IO, VREF0B4 (io), 108 IO, DPCLK6 (DQS0B) (io), 113 IO, LVDS79p (DQ1B3) (io), 114 IO, LVDS79n (DQ1B2) (io), 115 IO, LVDS78p (DQ1B1) (io), 116 IO, LVDS78n (DQ1B0) (io), 117 IO, LVDS77p (io), 118 IO, LVDS77n (io), 119 IO, LVDS76p (io), 120 IO, LVDS76n (io)
part E pins: 25 DATA0 (in), 26 nCONFIG (in), 32 nCEO (out), 33 nCE (in), 34 MSEL0 (in), 35 MSEL1 (in), 36 DCLK (io), 145 CONF_DONE (io), 146 nSTATUS (io), 147 TCK (in), 148 TMS (in), 149 TDO (out), 155 TDI (in)
part F pins: 9 VCCIO1 (power), 22 VCCIO1 (power), 51 VCCIO1 (power), 70 VCCIO4 (power), 72 VCCINT (power), 81 VCCINT (power), 90 VCCINT (power), 92 VCCIO4 (power), 97 VCCINT (power), 103 VCCINT (power), 110 VCCINT (power), 112 VCCIO4 (power), 130 VCCIO3 (power), 157 VCCIO3 (power), 172 VCCIO3 (power), 189 VCCIO2 (power), 191 VCCINT (power), 198 VCCINT (power), 204 VCCINT (power), 209 VCCIO2 (power), 211 VCCINT (power), 220 VCCINT (power), 229 VCCINT (power), 231 VCCIO2 (power)
part G pins: 10 GND (power), 40 GND (power), 52 GND (power), 69 GND (power), 71 GND (power), 80 GND (power), 89 GND (power), 91 GND (power), 96 GND (power), 102 GND (power), 109 GND (power), 111 GND (power), 129 GND (power), 142 GND (power), 171 GND (power), 190 GND (power), 192 GND (power), 199 GND (power), 205 GND (power), 210 GND (power), 212 GND (power), 221 GND (power), 230 GND (power), 232 GND (power)
part H pins: 27 VCCA_PLL1 (power), 30 GNDA_PLL1 (power), 31 GNDG_PLL1 (power), 150 GNDG_PLL2 (power), 151 GNDA_PLL2 (power), 154 VCCA_PLL2 (power)
part I pins: 28 CLK0, LVDSCLK1p (in), 29 CLK1, LVDSCLK1n (in), 152 CLK3, LVDSCLK2n (in), 153 CLK2, LVDSCLK2p (in)
part A text: BANK 1
part B text: BANK 2
part C text: BANK 3
part D text: BANK 4

## EP1C12Q240C8N
designator U?
Cyclone Family, 1.5V FPGA, 173 I/O Pins, 2 x PLLs, Commercial Grade, Speed Grade 8, Pb-Free; Published: 4-Mar-2005; LatestRevisionDate: 13-Apr-2006; LatestRevisionNote: Pin 2 name fix, IPC-7351 Footprint Added.; DatasheetVersion: ver2.4, May-2008; PackageVersion: ver15.4, Dec-2008; PackageReference: PQFP240; Publisher: Altium Limited; PackageDescription: 240-Pin Plastic Quad Flat Pack (PQFP240) - Wire Bond; Supplier 1: Digi-Key; Supplier Part Number 1: 544-1795-ND; Supplier 2: Farnell; Supplier Part Number 2: 1453477; Supplier 3: Farnell; Supplier Part Number 3: 1662252; Code_JEDEC: MS-029-GA; ComponentLink1Description: Manufacturer Link; ComponentLink1URL: http://www.altera.com/products/devices/cyclone/cyc-index.jsp; ComponentLink2Description: Handbook; ComponentLink2URL: http://www.altera.com/literature/hb/cyc/cyc_c5v1.pdf; ComponentLink3Description: Packaging Specification; ComponentLink3URL: http://www.altera.com/literature/ds/dspkg.pdf
footprint PQFP240_N (Shrink QFP, 240-Leads, Body 32x32mm, Pitch 0.5mm, IPC Medium Density)
footprint PQFP240_L (Shrink QFP, 240-Leads, Body 32x32mm, Pitch 0.5mm, IPC High Density)
footprint PQFP240_M (Shrink QFP, 240-Leads, Body 32x32mm, Pitch 0.5mm, IPC Low Density)
3D model EP1C12-PQFP240 (240-Pin Plastic Quad Flat Pack (PQFP240) - Wire Bond)
signal-integrity model 1c (Cyclone)
part A pins: 1 IO, LVDS23p (INIT_DONE) (io), 2 IO, LVDS23n (CRC_ERROR) (io), 3 IO, LVDS22p (CLKUSR) (io), 4 IO, LVDS22n (io), 5 IO, VREF0B1 (io), 6 IO (io), 7 IO, LVDS21p (DQ0L0) (io), 8 IO, LVDS21n (DQ0L1) (io), 11 IO, DPCLK1 (DQS0L) (io), 12 IO, LVDS20p (DQ0L2) (io), 13 IO, LVDS20n (DQ0L3) (io), 14 IO, LVDS19p (io), 15 IO, LVDS19n (io), 16 IO, LVDS18p (io), 17 IO, LVDS18n (io), 18 IO, LVDS17p (io), 19 IO, LVDS17n (io), 20 IO, LVDS16p (io), 21 IO, LVDS16n (DM0L) (io), 23 IO, VREF1B1 (io), 24 IO (nCSO) (io), 37 IO (ASDO) (io), 38 IO, PLL1_OUTp (io), 39 IO, PLL1_OUTn (io), 41 IO, LVDS7n (io), 42 IO, LVDS6p (io), 43 IO, LVDS6n (io), 44 IO, LVDS5p (io), 45 IO, LVDS5n (io), 46 IO, LVDS4p (io), 47 IO, LVDS4n (io), 48 IO, LVDS3p (DQ0L4) (io), 49 IO, LVDS3n (DQ0L5) (io), 50 IO, DPCLK0 (DQS1L) (io), 53 IO, LVDS2p (DQ0L6) (io), 54 IO, LVDS2n (DQ0L7) (io), 55 IO, VREF2B1 (io), 56 IO (io), 57 IO, LVDS1p (io), 58 IO, LVDS1n (io), 59 IO, LVDS0p (io), 60 IO, LVDS0n (io)
part B pins: 181 IO, LVDS50n (io), 182 IO, LVDS50p (io), 183 IO, LVDS49n (io), 184 IO, LVDS49p (io), 185 IO, LVDS48n (DQ0T0) (io), 186 IO, LVDS48p (DQ0T1) (io), 187 IO, LVDS47n (DQ0T2) (io), 188 IO, LVDS47p (DQ0T3) (io), 193 IO, DPCLK3 (DQS0T) (io), 194 IO, VREF0B2 (io), 195 IO (io), 196 IO, LVDS46n (io), 197 IO, LVDS46p (io), 200 IO, LVDS41n (io), 201 IO, LVDS41p (io), 202 IO, LVDS40n (io), 203 IO, LVDS40p (io), 206 IO, LVDS39n (DM0T) (io), 207 IO, LVDS39p (io), 208 IO, VREF1B2 (io), 213 IO, LVDS34p (io), 214 IO, LVDS33n (io), 215 IO, LVDS33p (io), 216 IO, LVDS32n (io), 217 IO, LVDS32p (io), 218 IO, LVDS31n (io), 219 IO, LVDS31p (io), 222 IO, LVDS30p (io), 223 IO, LVDS29n (io), 224 IO, LVDS29p (io), 225 IO, LVDS28n (io), 226 IO, LVDS28p (io), 227 IO, VREF2B2 (io), 228 IO, DPCLK2 (DQS1T) (io), 233 IO, LVDS27n (DQ0T4) (io), 234 IO, LVDS27p (DQ0T5) (io), 235 IO, LVDS26n (DQ0T6) (io), 236 IO, LVDS26p (DQ0T7) (io), 237 IO, LVDS25n (io), 238 IO, LVDS25p (io), 239 IO, LVDS24n (DEV_OE) (io), 240 IO, LVDS24p (DEV_CLRn) (io)
part C pins: 121 IO, LVDS75n (io), 122 IO, LVDS75p (io), 123 IO, LVDS74n (io), 124 IO, LVDS74p (io), 125 IO, LVDS73n (DQ1R7) (io), 126 IO, LVDS73p (io), 127 IO, VREF2B3 (io), 128 IO (DQ1R6) (io), 131 IO, DPCLK5 (DQS1R) (io), 132 IO, LVDS72n (DQ1R5) (io), 133 IO, LVDS72p (DQ1R4) (io), 134 IO, LVDS71n (io), 135 IO, LVDS71p (io), 136 IO, LVDS70n (io), 137 IO, LVDS70p (io), 138 IO, LVDS69n (io), 139 IO, LVDS69p (io), 140 IO, LVDS68n (io), 141 IO, LVDS68p (io), 143 IO, PLL2_OUTn (io), 144 IO, PLL2_OUTp (io), 156 IO, VREF1B3 (io), 158 IO, LVDS59n (DM1R) (io), 159 IO, LVDS59p (io), 160 IO, LVDS58n (io), 161 IO, LVDS58p (io), 162 IO, LVDS57n (io), 163 IO, LVDS57p (io), 164 IO, LVDS56n (io), 165 IO, LVDS56p (io), 166 IO, LVDS55n (io), 167 IO, LVDS55p (io), 168 IO, LVDS54n (io), 169 IO, LVDS54p (DQ1R3) (io), 170 IO, DPCLK4 (DQS0R) (io), 173 IO, LVDS53n (DQ1R2) (io), 174 IO, LVDS53p (DQ1R1) (io), 175 IO (DQ1R0) (io), 176 IO, VREF0B3 (io), 177 IO, LVDS52n (io), 178 IO, LVDS52p (io), 179 IO, LVDS51n (io), 180 IO, LVDS51p (io)
part D pins: 61 IO, LVDS102p (io), 62 IO, LVDS102n (io), 63 IO, LVDS101p (io), 64 IO, LVDS101n (io), 65 IO, LVDS100p (io), 66 IO, LVDS100n (io), 67 IO, LVDS99p (DQ1B7) (io), 68 IO, LVDS99n (DQ1B6) (io), 73 IO, DPCLK7 (DQS1B) (io), 74 IO, VREF2B4 (io), 75 IO, LVDS98p (io), 76 IO, LVDS98n (DQ1B5) (io), 77 IO, LVDS97p (DQ1B4) (io), 78 IO, LVDS97n (io), 79 IO, LVDS96p (io), 82 IO, LVDS95p (io), 83 IO, LVDS95n (io), 84 IO, LVDS94p (io), 85 IO, LVDS94n (io), 86 IO, LVDS93p (io), 87 IO, LVDS93n (io), 88 IO, LVDS92p (io), 93 IO, VREF1B4 (io), 94 IO, LVDS87p (DM1B) (io), 95 IO, LVDS87n (io), 98 IO, LVDS86p (io), 99 IO, LVDS86n (io), 100 IO, LVDS85p (io), 101 IO, LVDS85n (io), 104 IO, LVDS80p (io), 105 IO, LVDS80n (io), 106 IO (io), 107 IO, VREF0B4 (io), 108 IO, DPCLK6 (DQS0B) (io), 113 IO, LVDS79p (DQ1B3) (io), 114 IO, LVDS79n (DQ1B2) (io), 115 IO, LVDS78p (DQ1B1) (io), 116 IO, LVDS78n (DQ1B0) (io), 117 IO, LVDS77p (io), 118 IO, LVDS77n (io), 119 IO, LVDS76p (io), 120 IO, LVDS76n (io)
part E pins: 25 DATA0 (in), 26 nCONFIG (in), 32 nCEO (out), 33 nCE (in), 34 MSEL0 (in), 35 MSEL1 (in), 36 DCLK (io), 145 CONF_DONE (io), 146 nSTATUS (io), 147 TCK (in), 148 TMS (in), 149 TDO (out), 155 TDI (in)
part F pins: 9 VCCIO1 (power), 22 VCCIO1 (power), 51 VCCIO1 (power), 70 VCCIO4 (power), 72 VCCINT (power), 81 VCCINT (power), 90 VCCINT (power), 92 VCCIO4 (power), 97 VCCINT (power), 103 VCCINT (power), 110 VCCINT (power), 112 VCCIO4 (power), 130 VCCIO3 (power), 157 VCCIO3 (power), 172 VCCIO3 (power), 189 VCCIO2 (power), 191 VCCINT (power), 198 VCCINT (power), 204 VCCINT (power), 209 VCCIO2 (power), 211 VCCINT (power), 220 VCCINT (power), 229 VCCINT (power), 231 VCCIO2 (power)
part G pins: 10 GND (power), 40 GND (power), 52 GND (power), 69 GND (power), 71 GND (power), 80 GND (power), 89 GND (power), 91 GND (power), 96 GND (power), 102 GND (power), 109 GND (power), 111 GND (power), 129 GND (power), 142 GND (power), 171 GND (power), 190 GND (power), 192 GND (power), 199 GND (power), 205 GND (power), 210 GND (power), 212 GND (power), 221 GND (power), 230 GND (power), 232 GND (power)
part H pins: 27 VCCA_PLL1 (power), 30 GNDA_PLL1 (power), 31 GNDG_PLL1 (power), 150 GNDG_PLL2 (power), 151 GNDA_PLL2 (power), 154 VCCA_PLL2 (power)
part I pins: 28 CLK0, LVDSCLK1p (in), 29 CLK1, LVDSCLK1n (in), 152 CLK3, LVDSCLK2n (in), 153 CLK2, LVDSCLK2p (in)
part A text: BANK 1
part B text: BANK 2
part C text: BANK 3
part D text: BANK 4

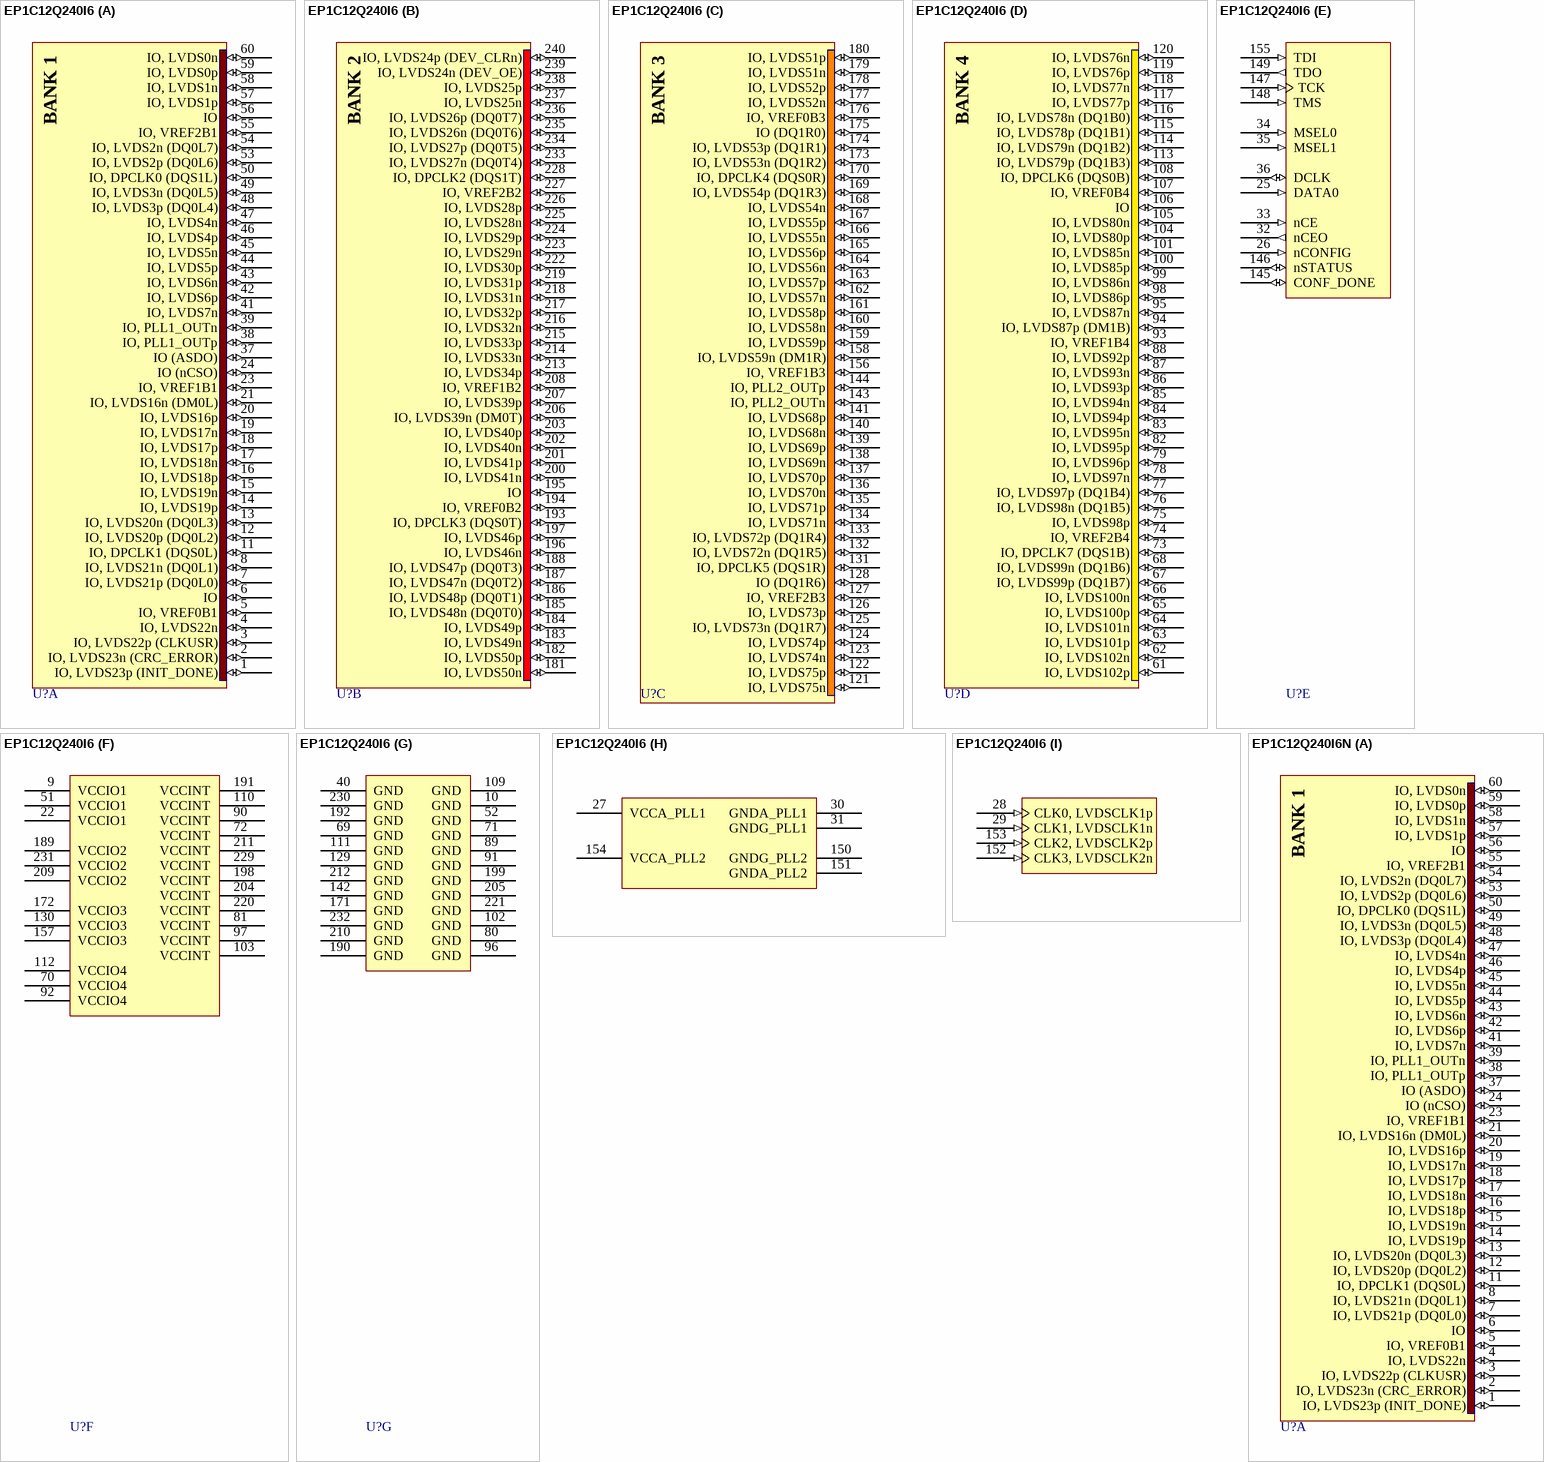
[diagram p114: symbols EP1C12Q240I6 to EP1C12Q240I6N]

## EP1C12Q240I6
designator U?
Cyclone Family, 1.5V FPGA, 173 I/O Pins, 2 x PLLs, Industrial Grade, Speed Grade 6; Published: 17-Dec-2003; LatestRevisionDate: 13-Apr-2006; LatestRevisionNote: Pin 2 name fix, IPC-7351 Footprint Added.; DatasheetVersion: ver2.4, May-2008; PackageVersion: ver15.4, Dec-2008; PackageReference: PQFP240; Publisher: Altium Limited; PackageDescription: 240-Pin Plastic Quad Flat Pack (PQFP240) - Wire Bond; Code_JEDEC: MS-029-GA; ComponentLink1Description: Manufacturer Link; ComponentLink1URL: http://www.altera.com/products/devices/cyclone/cyc-index.jsp; ComponentLink2Description: Handbook; ComponentLink2URL: http://www.altera.com/literature/hb/cyc/cyc_c5v1.pdf; ComponentLink3Description: Packaging Specification; ComponentLink3URL: http://www.altera.com/literature/ds/dspkg.pdf
footprint PQFP240_N (Shrink QFP, 240-Leads, Body 32x32mm, Pitch 0.5mm, IPC Medium Density)
footprint PQFP240_L (Shrink QFP, 240-Leads, Body 32x32mm, Pitch 0.5mm, IPC High Density)
footprint PQFP240_M (Shrink QFP, 240-Leads, Body 32x32mm, Pitch 0.5mm, IPC Low Density)
3D model EP1C12-PQFP240 (240-Pin Plastic Quad Flat Pack (PQFP240) - Wire Bond)
signal-integrity model 1c (Cyclone)
part A pins: 1 IO, LVDS23p (INIT_DONE) (io), 2 IO, LVDS23n (CRC_ERROR) (io), 3 IO, LVDS22p (CLKUSR) (io), 4 IO, LVDS22n (io), 5 IO, VREF0B1 (io), 6 IO (io), 7 IO, LVDS21p (DQ0L0) (io), 8 IO, LVDS21n (DQ0L1) (io), 11 IO, DPCLK1 (DQS0L) (io), 12 IO, LVDS20p (DQ0L2) (io), 13 IO, LVDS20n (DQ0L3) (io), 14 IO, LVDS19p (io), 15 IO, LVDS19n (io), 16 IO, LVDS18p (io), 17 IO, LVDS18n (io), 18 IO, LVDS17p (io), 19 IO, LVDS17n (io), 20 IO, LVDS16p (io), 21 IO, LVDS16n (DM0L) (io), 23 IO, VREF1B1 (io), 24 IO (nCSO) (io), 37 IO (ASDO) (io), 38 IO, PLL1_OUTp (io), 39 IO, PLL1_OUTn (io), 41 IO, LVDS7n (io), 42 IO, LVDS6p (io), 43 IO, LVDS6n (io), 44 IO, LVDS5p (io), 45 IO, LVDS5n (io), 46 IO, LVDS4p (io), 47 IO, LVDS4n (io), 48 IO, LVDS3p (DQ0L4) (io), 49 IO, LVDS3n (DQ0L5) (io), 50 IO, DPCLK0 (DQS1L) (io), 53 IO, LVDS2p (DQ0L6) (io), 54 IO, LVDS2n (DQ0L7) (io), 55 IO, VREF2B1 (io), 56 IO (io), 57 IO, LVDS1p (io), 58 IO, LVDS1n (io), 59 IO, LVDS0p (io), 60 IO, LVDS0n (io)
part B pins: 181 IO, LVDS50n (io), 182 IO, LVDS50p (io), 183 IO, LVDS49n (io), 184 IO, LVDS49p (io), 185 IO, LVDS48n (DQ0T0) (io), 186 IO, LVDS48p (DQ0T1) (io), 187 IO, LVDS47n (DQ0T2) (io), 188 IO, LVDS47p (DQ0T3) (io), 193 IO, DPCLK3 (DQS0T) (io), 194 IO, VREF0B2 (io), 195 IO (io), 196 IO, LVDS46n (io), 197 IO, LVDS46p (io), 200 IO, LVDS41n (io), 201 IO, LVDS41p (io), 202 IO, LVDS40n (io), 203 IO, LVDS40p (io), 206 IO, LVDS39n (DM0T) (io), 207 IO, LVDS39p (io), 208 IO, VREF1B2 (io), 213 IO, LVDS34p (io), 214 IO, LVDS33n (io), 215 IO, LVDS33p (io), 216 IO, LVDS32n (io), 217 IO, LVDS32p (io), 218 IO, LVDS31n (io), 219 IO, LVDS31p (io), 222 IO, LVDS30p (io), 223 IO, LVDS29n (io), 224 IO, LVDS29p (io), 225 IO, LVDS28n (io), 226 IO, LVDS28p (io), 227 IO, VREF2B2 (io), 228 IO, DPCLK2 (DQS1T) (io), 233 IO, LVDS27n (DQ0T4) (io), 234 IO, LVDS27p (DQ0T5) (io), 235 IO, LVDS26n (DQ0T6) (io), 236 IO, LVDS26p (DQ0T7) (io), 237 IO, LVDS25n (io), 238 IO, LVDS25p (io), 239 IO, LVDS24n (DEV_OE) (io), 240 IO, LVDS24p (DEV_CLRn) (io)
part C pins: 121 IO, LVDS75n (io), 122 IO, LVDS75p (io), 123 IO, LVDS74n (io), 124 IO, LVDS74p (io), 125 IO, LVDS73n (DQ1R7) (io), 126 IO, LVDS73p (io), 127 IO, VREF2B3 (io), 128 IO (DQ1R6) (io), 131 IO, DPCLK5 (DQS1R) (io), 132 IO, LVDS72n (DQ1R5) (io), 133 IO, LVDS72p (DQ1R4) (io), 134 IO, LVDS71n (io), 135 IO, LVDS71p (io), 136 IO, LVDS70n (io), 137 IO, LVDS70p (io), 138 IO, LVDS69n (io), 139 IO, LVDS69p (io), 140 IO, LVDS68n (io), 141 IO, LVDS68p (io), 143 IO, PLL2_OUTn (io), 144 IO, PLL2_OUTp (io), 156 IO, VREF1B3 (io), 158 IO, LVDS59n (DM1R) (io), 159 IO, LVDS59p (io), 160 IO, LVDS58n (io), 161 IO, LVDS58p (io), 162 IO, LVDS57n (io), 163 IO, LVDS57p (io), 164 IO, LVDS56n (io), 165 IO, LVDS56p (io), 166 IO, LVDS55n (io), 167 IO, LVDS55p (io), 168 IO, LVDS54n (io), 169 IO, LVDS54p (DQ1R3) (io), 170 IO, DPCLK4 (DQS0R) (io), 173 IO, LVDS53n (DQ1R2) (io), 174 IO, LVDS53p (DQ1R1) (io), 175 IO (DQ1R0) (io), 176 IO, VREF0B3 (io), 177 IO, LVDS52n (io), 178 IO, LVDS52p (io), 179 IO, LVDS51n (io), 180 IO, LVDS51p (io)
part D pins: 61 IO, LVDS102p (io), 62 IO, LVDS102n (io), 63 IO, LVDS101p (io), 64 IO, LVDS101n (io), 65 IO, LVDS100p (io), 66 IO, LVDS100n (io), 67 IO, LVDS99p (DQ1B7) (io), 68 IO, LVDS99n (DQ1B6) (io), 73 IO, DPCLK7 (DQS1B) (io), 74 IO, VREF2B4 (io), 75 IO, LVDS98p (io), 76 IO, LVDS98n (DQ1B5) (io), 77 IO, LVDS97p (DQ1B4) (io), 78 IO, LVDS97n (io), 79 IO, LVDS96p (io), 82 IO, LVDS95p (io), 83 IO, LVDS95n (io), 84 IO, LVDS94p (io), 85 IO, LVDS94n (io), 86 IO, LVDS93p (io), 87 IO, LVDS93n (io), 88 IO, LVDS92p (io), 93 IO, VREF1B4 (io), 94 IO, LVDS87p (DM1B) (io), 95 IO, LVDS87n (io), 98 IO, LVDS86p (io), 99 IO, LVDS86n (io), 100 IO, LVDS85p (io), 101 IO, LVDS85n (io), 104 IO, LVDS80p (io), 105 IO, LVDS80n (io), 106 IO (io), 107 IO, VREF0B4 (io), 108 IO, DPCLK6 (DQS0B) (io), 113 IO, LVDS79p (DQ1B3) (io), 114 IO, LVDS79n (DQ1B2) (io), 115 IO, LVDS78p (DQ1B1) (io), 116 IO, LVDS78n (DQ1B0) (io), 117 IO, LVDS77p (io), 118 IO, LVDS77n (io), 119 IO, LVDS76p (io), 120 IO, LVDS76n (io)
part E pins: 25 DATA0 (in), 26 nCONFIG (in), 32 nCEO (out), 33 nCE (in), 34 MSEL0 (in), 35 MSEL1 (in), 36 DCLK (io), 145 CONF_DONE (io), 146 nSTATUS (io), 147 TCK (in), 148 TMS (in), 149 TDO (out), 155 TDI (in)
part F pins: 9 VCCIO1 (power), 22 VCCIO1 (power), 51 VCCIO1 (power), 70 VCCIO4 (power), 72 VCCINT (power), 81 VCCINT (power), 90 VCCINT (power), 92 VCCIO4 (power), 97 VCCINT (power), 103 VCCINT (power), 110 VCCINT (power), 112 VCCIO4 (power), 130 VCCIO3 (power), 157 VCCIO3 (power), 172 VCCIO3 (power), 189 VCCIO2 (power), 191 VCCINT (power), 198 VCCINT (power), 204 VCCINT (power), 209 VCCIO2 (power), 211 VCCINT (power), 220 VCCINT (power), 229 VCCINT (power), 231 VCCIO2 (power)
part G pins: 10 GND (power), 40 GND (power), 52 GND (power), 69 GND (power), 71 GND (power), 80 GND (power), 89 GND (power), 91 GND (power), 96 GND (power), 102 GND (power), 109 GND (power), 111 GND (power), 129 GND (power), 142 GND (power), 171 GND (power), 190 GND (power), 192 GND (power), 199 GND (power), 205 GND (power), 210 GND (power), 212 GND (power), 221 GND (power), 230 GND (power), 232 GND (power)
part H pins: 27 VCCA_PLL1 (power), 30 GNDA_PLL1 (power), 31 GNDG_PLL1 (power), 150 GNDG_PLL2 (power), 151 GNDA_PLL2 (power), 154 VCCA_PLL2 (power)
part I pins: 28 CLK0, LVDSCLK1p (in), 29 CLK1, LVDSCLK1n (in), 152 CLK3, LVDSCLK2n (in), 153 CLK2, LVDSCLK2p (in)
part A text: BANK 1
part B text: BANK 2
part C text: BANK 3
part D text: BANK 4

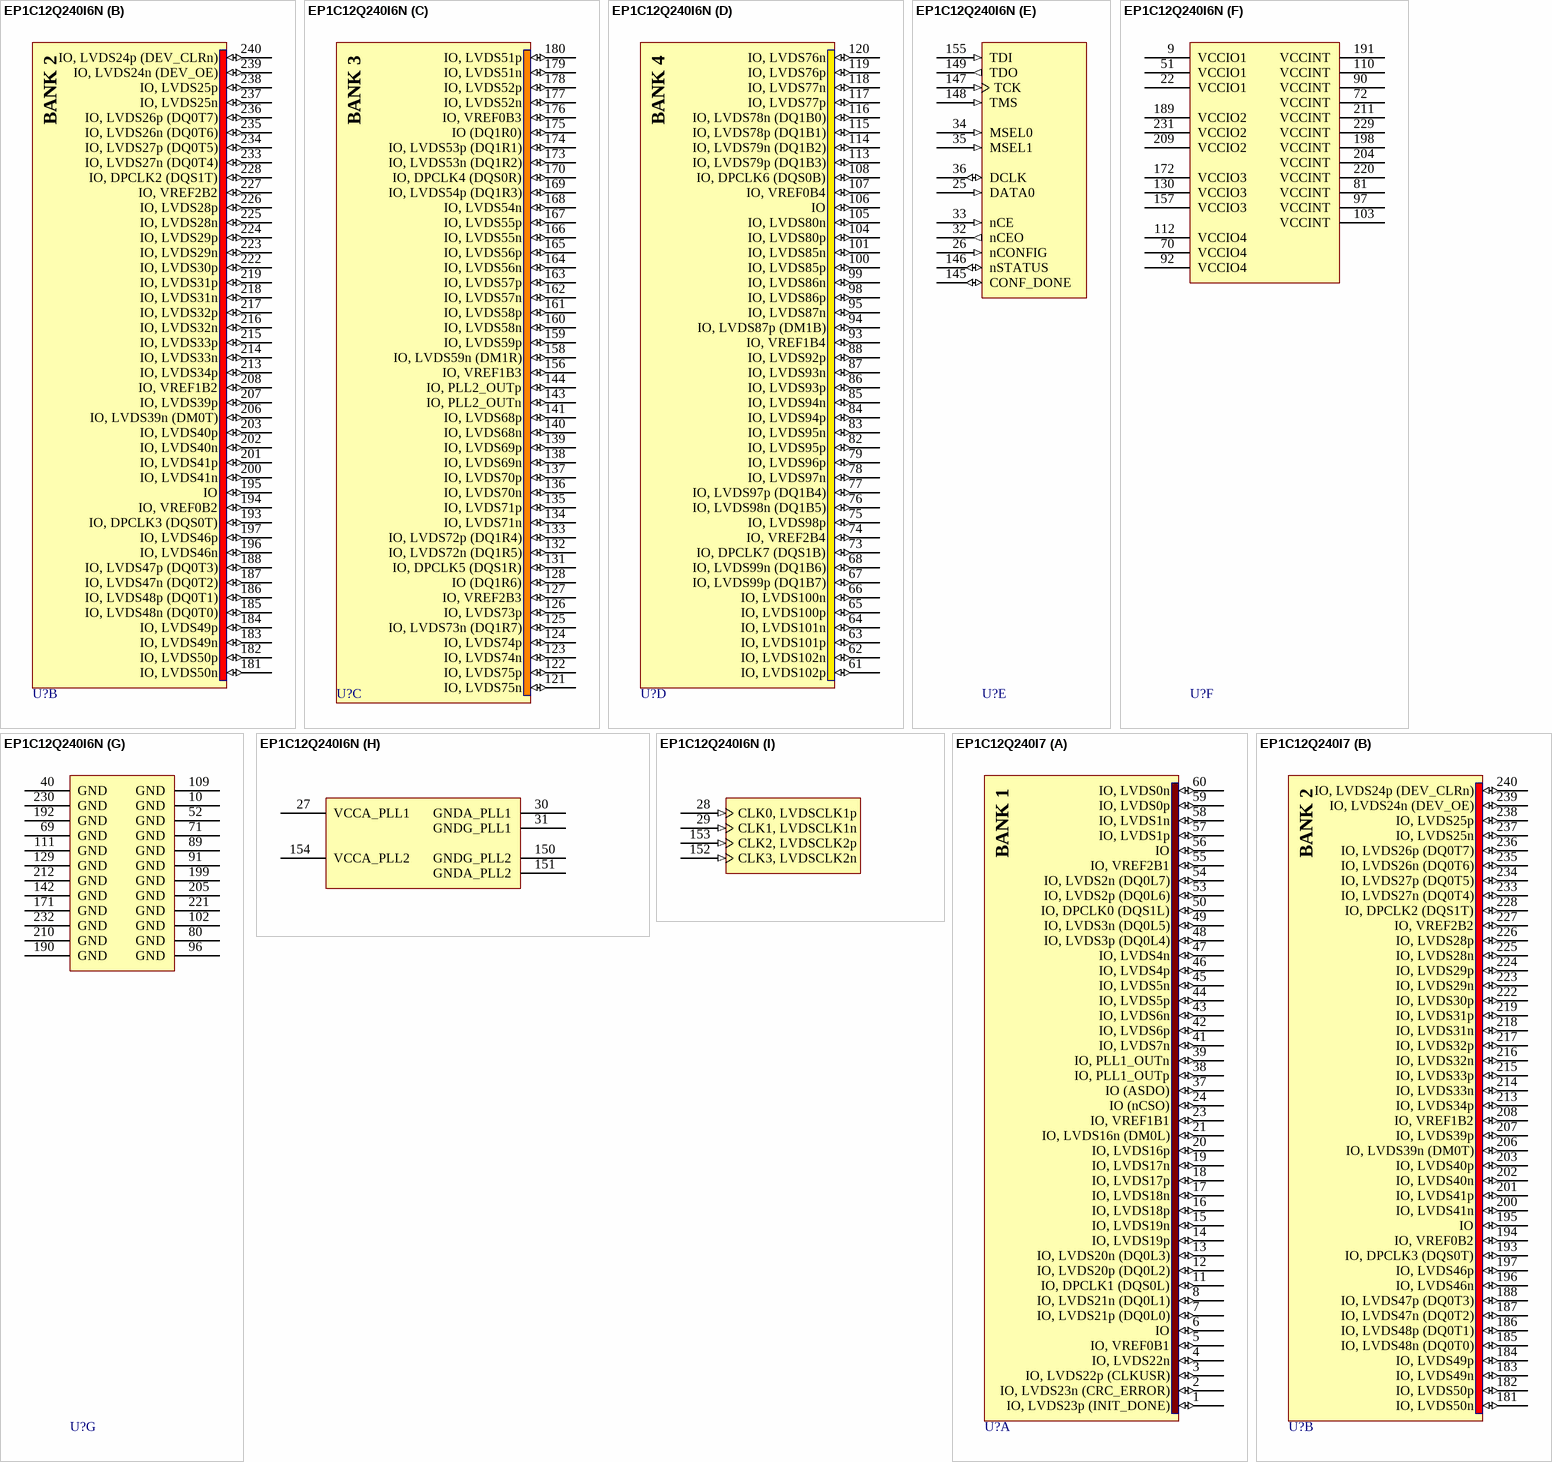
[diagram p115: symbols EP1C12Q240I6N to EP1C12Q240I7]

## EP1C12Q240I6N
designator U?
Cyclone Family, 1.5V FPGA, 173 I/O Pins, 2 x PLLs, Industrial Grade, Speed Grade 6, Pb-Free; Published: 18-Aug-2005; LatestRevisionDate: 13-Apr-2006; LatestRevisionNote: Pin 2 name fix, IPC-7351 Footprint Added.; DatasheetVersion: ver2.4, May-2008; PackageVersion: ver15.4, Dec-2008; PackageReference: PQFP240; Publisher: Altium Limited; PackageDescription: 240-Pin Plastic Quad Flat Pack (PQFP240) - Wire Bond; Code_JEDEC: MS-029-GA; ComponentLink1Description: Manufacturer Link; ComponentLink1URL: http://www.altera.com/products/devices/cyclone/cyc-index.jsp; ComponentLink2Description: Handbook; ComponentLink2URL: http://www.altera.com/literature/hb/cyc/cyc_c5v1.pdf; ComponentLink3Description: Packaging Specification; ComponentLink3URL: http://www.altera.com/literature/ds/dspkg.pdf
footprint PQFP240_N (Shrink QFP, 240-Leads, Body 32x32mm, Pitch 0.5mm, IPC Medium Density)
footprint PQFP240_L (Shrink QFP, 240-Leads, Body 32x32mm, Pitch 0.5mm, IPC High Density)
footprint PQFP240_M (Shrink QFP, 240-Leads, Body 32x32mm, Pitch 0.5mm, IPC Low Density)
3D model EP1C12-PQFP240 (240-Pin Plastic Quad Flat Pack (PQFP240) - Wire Bond)
signal-integrity model 1c (Cyclone)
part A pins: 1 IO, LVDS23p (INIT_DONE) (io), 2 IO, LVDS23n (CRC_ERROR) (io), 3 IO, LVDS22p (CLKUSR) (io), 4 IO, LVDS22n (io), 5 IO, VREF0B1 (io), 6 IO (io), 7 IO, LVDS21p (DQ0L0) (io), 8 IO, LVDS21n (DQ0L1) (io), 11 IO, DPCLK1 (DQS0L) (io), 12 IO, LVDS20p (DQ0L2) (io), 13 IO, LVDS20n (DQ0L3) (io), 14 IO, LVDS19p (io), 15 IO, LVDS19n (io), 16 IO, LVDS18p (io), 17 IO, LVDS18n (io), 18 IO, LVDS17p (io), 19 IO, LVDS17n (io), 20 IO, LVDS16p (io), 21 IO, LVDS16n (DM0L) (io), 23 IO, VREF1B1 (io), 24 IO (nCSO) (io), 37 IO (ASDO) (io), 38 IO, PLL1_OUTp (io), 39 IO, PLL1_OUTn (io), 41 IO, LVDS7n (io), 42 IO, LVDS6p (io), 43 IO, LVDS6n (io), 44 IO, LVDS5p (io), 45 IO, LVDS5n (io), 46 IO, LVDS4p (io), 47 IO, LVDS4n (io), 48 IO, LVDS3p (DQ0L4) (io), 49 IO, LVDS3n (DQ0L5) (io), 50 IO, DPCLK0 (DQS1L) (io), 53 IO, LVDS2p (DQ0L6) (io), 54 IO, LVDS2n (DQ0L7) (io), 55 IO, VREF2B1 (io), 56 IO (io), 57 IO, LVDS1p (io), 58 IO, LVDS1n (io), 59 IO, LVDS0p (io), 60 IO, LVDS0n (io)
part B pins: 181 IO, LVDS50n (io), 182 IO, LVDS50p (io), 183 IO, LVDS49n (io), 184 IO, LVDS49p (io), 185 IO, LVDS48n (DQ0T0) (io), 186 IO, LVDS48p (DQ0T1) (io), 187 IO, LVDS47n (DQ0T2) (io), 188 IO, LVDS47p (DQ0T3) (io), 193 IO, DPCLK3 (DQS0T) (io), 194 IO, VREF0B2 (io), 195 IO (io), 196 IO, LVDS46n (io), 197 IO, LVDS46p (io), 200 IO, LVDS41n (io), 201 IO, LVDS41p (io), 202 IO, LVDS40n (io), 203 IO, LVDS40p (io), 206 IO, LVDS39n (DM0T) (io), 207 IO, LVDS39p (io), 208 IO, VREF1B2 (io), 213 IO, LVDS34p (io), 214 IO, LVDS33n (io), 215 IO, LVDS33p (io), 216 IO, LVDS32n (io), 217 IO, LVDS32p (io), 218 IO, LVDS31n (io), 219 IO, LVDS31p (io), 222 IO, LVDS30p (io), 223 IO, LVDS29n (io), 224 IO, LVDS29p (io), 225 IO, LVDS28n (io), 226 IO, LVDS28p (io), 227 IO, VREF2B2 (io), 228 IO, DPCLK2 (DQS1T) (io), 233 IO, LVDS27n (DQ0T4) (io), 234 IO, LVDS27p (DQ0T5) (io), 235 IO, LVDS26n (DQ0T6) (io), 236 IO, LVDS26p (DQ0T7) (io), 237 IO, LVDS25n (io), 238 IO, LVDS25p (io), 239 IO, LVDS24n (DEV_OE) (io), 240 IO, LVDS24p (DEV_CLRn) (io)
part C pins: 121 IO, LVDS75n (io), 122 IO, LVDS75p (io), 123 IO, LVDS74n (io), 124 IO, LVDS74p (io), 125 IO, LVDS73n (DQ1R7) (io), 126 IO, LVDS73p (io), 127 IO, VREF2B3 (io), 128 IO (DQ1R6) (io), 131 IO, DPCLK5 (DQS1R) (io), 132 IO, LVDS72n (DQ1R5) (io), 133 IO, LVDS72p (DQ1R4) (io), 134 IO, LVDS71n (io), 135 IO, LVDS71p (io), 136 IO, LVDS70n (io), 137 IO, LVDS70p (io), 138 IO, LVDS69n (io), 139 IO, LVDS69p (io), 140 IO, LVDS68n (io), 141 IO, LVDS68p (io), 143 IO, PLL2_OUTn (io), 144 IO, PLL2_OUTp (io), 156 IO, VREF1B3 (io), 158 IO, LVDS59n (DM1R) (io), 159 IO, LVDS59p (io), 160 IO, LVDS58n (io), 161 IO, LVDS58p (io), 162 IO, LVDS57n (io), 163 IO, LVDS57p (io), 164 IO, LVDS56n (io), 165 IO, LVDS56p (io), 166 IO, LVDS55n (io), 167 IO, LVDS55p (io), 168 IO, LVDS54n (io), 169 IO, LVDS54p (DQ1R3) (io), 170 IO, DPCLK4 (DQS0R) (io), 173 IO, LVDS53n (DQ1R2) (io), 174 IO, LVDS53p (DQ1R1) (io), 175 IO (DQ1R0) (io), 176 IO, VREF0B3 (io), 177 IO, LVDS52n (io), 178 IO, LVDS52p (io), 179 IO, LVDS51n (io), 180 IO, LVDS51p (io)
part D pins: 61 IO, LVDS102p (io), 62 IO, LVDS102n (io), 63 IO, LVDS101p (io), 64 IO, LVDS101n (io), 65 IO, LVDS100p (io), 66 IO, LVDS100n (io), 67 IO, LVDS99p (DQ1B7) (io), 68 IO, LVDS99n (DQ1B6) (io), 73 IO, DPCLK7 (DQS1B) (io), 74 IO, VREF2B4 (io), 75 IO, LVDS98p (io), 76 IO, LVDS98n (DQ1B5) (io), 77 IO, LVDS97p (DQ1B4) (io), 78 IO, LVDS97n (io), 79 IO, LVDS96p (io), 82 IO, LVDS95p (io), 83 IO, LVDS95n (io), 84 IO, LVDS94p (io), 85 IO, LVDS94n (io), 86 IO, LVDS93p (io), 87 IO, LVDS93n (io), 88 IO, LVDS92p (io), 93 IO, VREF1B4 (io), 94 IO, LVDS87p (DM1B) (io), 95 IO, LVDS87n (io), 98 IO, LVDS86p (io), 99 IO, LVDS86n (io), 100 IO, LVDS85p (io), 101 IO, LVDS85n (io), 104 IO, LVDS80p (io), 105 IO, LVDS80n (io), 106 IO (io), 107 IO, VREF0B4 (io), 108 IO, DPCLK6 (DQS0B) (io), 113 IO, LVDS79p (DQ1B3) (io), 114 IO, LVDS79n (DQ1B2) (io), 115 IO, LVDS78p (DQ1B1) (io), 116 IO, LVDS78n (DQ1B0) (io), 117 IO, LVDS77p (io), 118 IO, LVDS77n (io), 119 IO, LVDS76p (io), 120 IO, LVDS76n (io)
part E pins: 25 DATA0 (in), 26 nCONFIG (in), 32 nCEO (out), 33 nCE (in), 34 MSEL0 (in), 35 MSEL1 (in), 36 DCLK (io), 145 CONF_DONE (io), 146 nSTATUS (io), 147 TCK (in), 148 TMS (in), 149 TDO (out), 155 TDI (in)
part F pins: 9 VCCIO1 (power), 22 VCCIO1 (power), 51 VCCIO1 (power), 70 VCCIO4 (power), 72 VCCINT (power), 81 VCCINT (power), 90 VCCINT (power), 92 VCCIO4 (power), 97 VCCINT (power), 103 VCCINT (power), 110 VCCINT (power), 112 VCCIO4 (power), 130 VCCIO3 (power), 157 VCCIO3 (power), 172 VCCIO3 (power), 189 VCCIO2 (power), 191 VCCINT (power), 198 VCCINT (power), 204 VCCINT (power), 209 VCCIO2 (power), 211 VCCINT (power), 220 VCCINT (power), 229 VCCINT (power), 231 VCCIO2 (power)
part G pins: 10 GND (power), 40 GND (power), 52 GND (power), 69 GND (power), 71 GND (power), 80 GND (power), 89 GND (power), 91 GND (power), 96 GND (power), 102 GND (power), 109 GND (power), 111 GND (power), 129 GND (power), 142 GND (power), 171 GND (power), 190 GND (power), 192 GND (power), 199 GND (power), 205 GND (power), 210 GND (power), 212 GND (power), 221 GND (power), 230 GND (power), 232 GND (power)
part H pins: 27 VCCA_PLL1 (power), 30 GNDA_PLL1 (power), 31 GNDG_PLL1 (power), 150 GNDG_PLL2 (power), 151 GNDA_PLL2 (power), 154 VCCA_PLL2 (power)
part I pins: 28 CLK0, LVDSCLK1p (in), 29 CLK1, LVDSCLK1n (in), 152 CLK3, LVDSCLK2n (in), 153 CLK2, LVDSCLK2p (in)
part A text: BANK 1
part B text: BANK 2
part C text: BANK 3
part D text: BANK 4

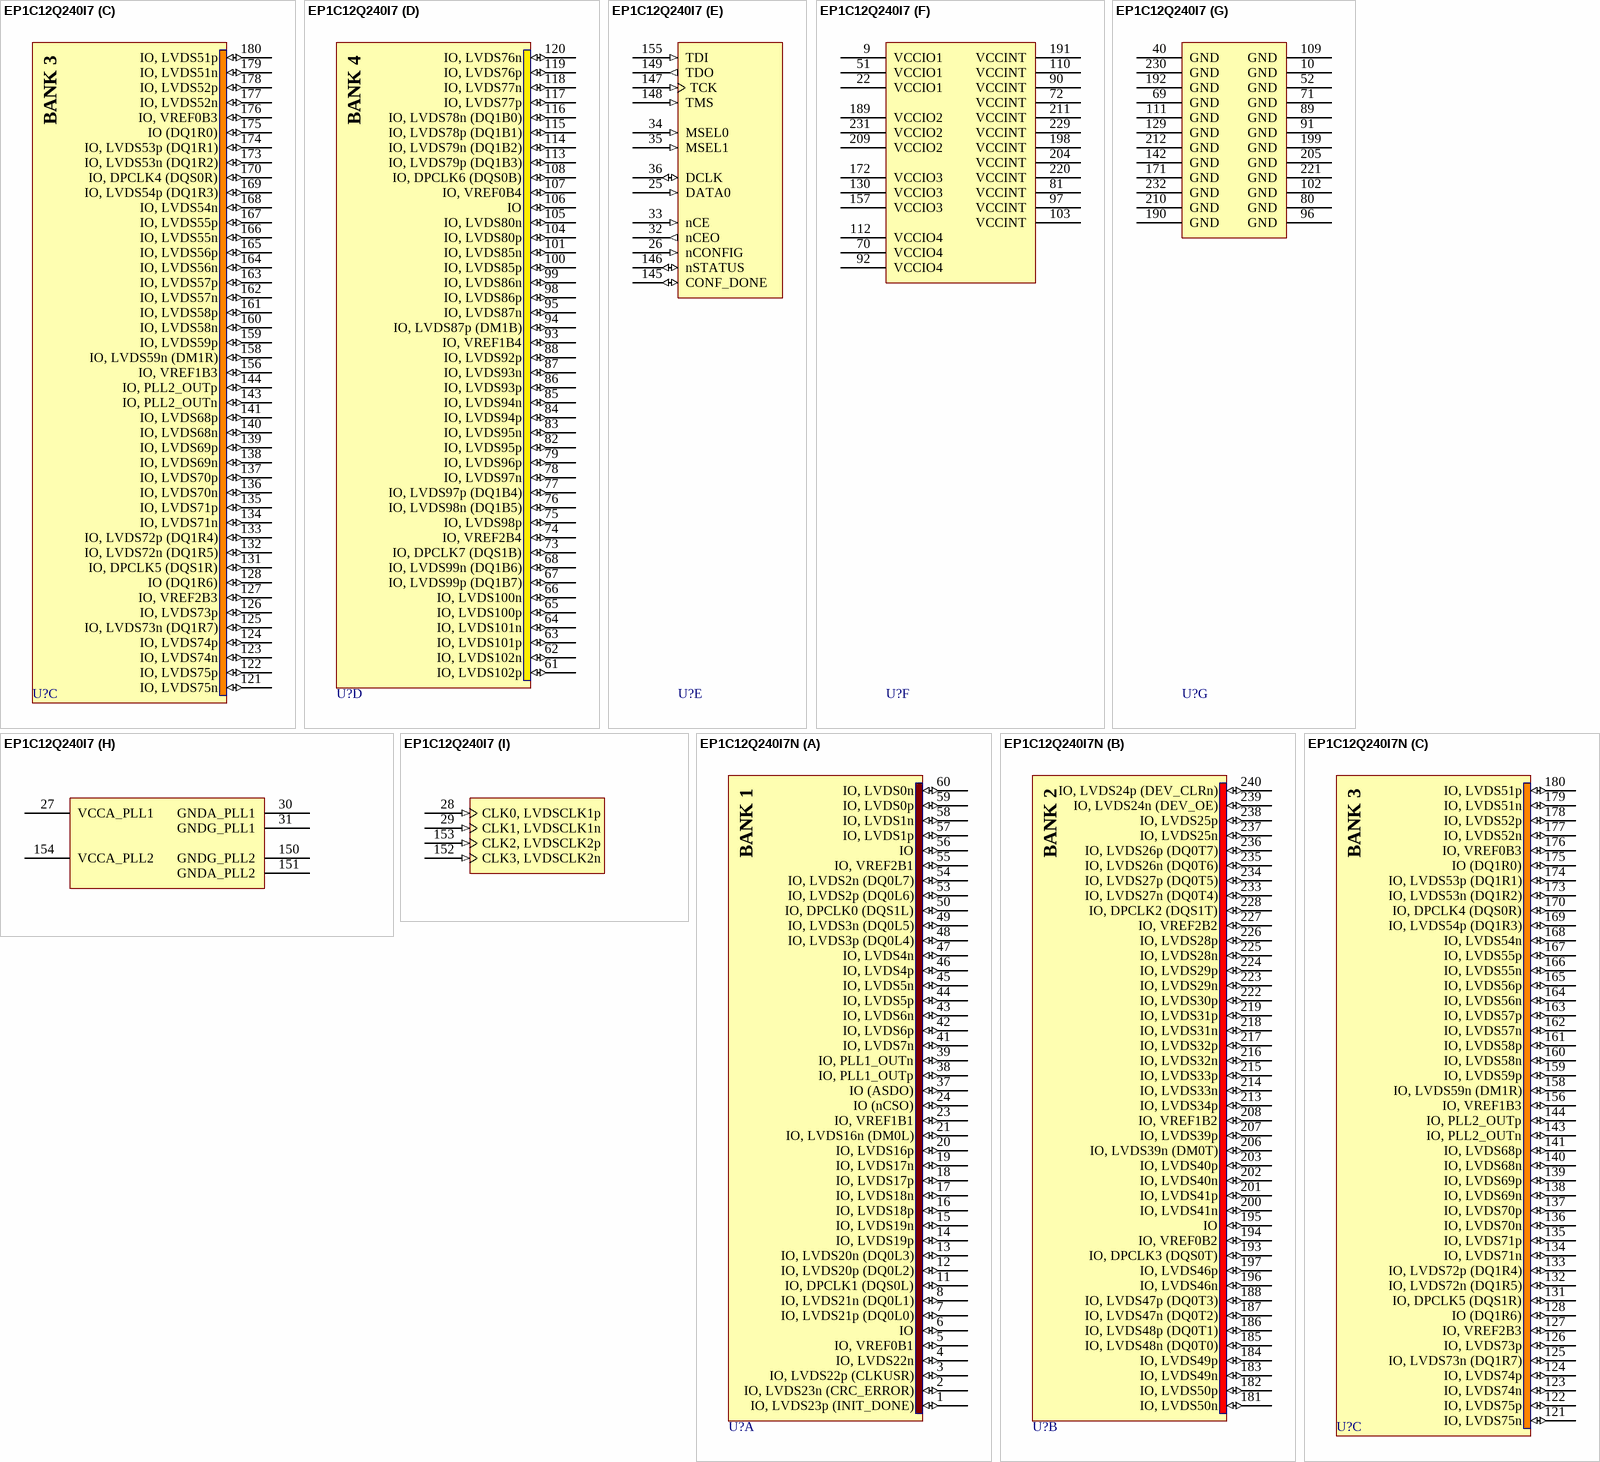
[diagram p116: symbols EP1C12Q240I7 to EP1C12Q240I7N]